# Altium integrated library Altium Database Library V2.IntLib: 825 symbols (part 14 of 40)

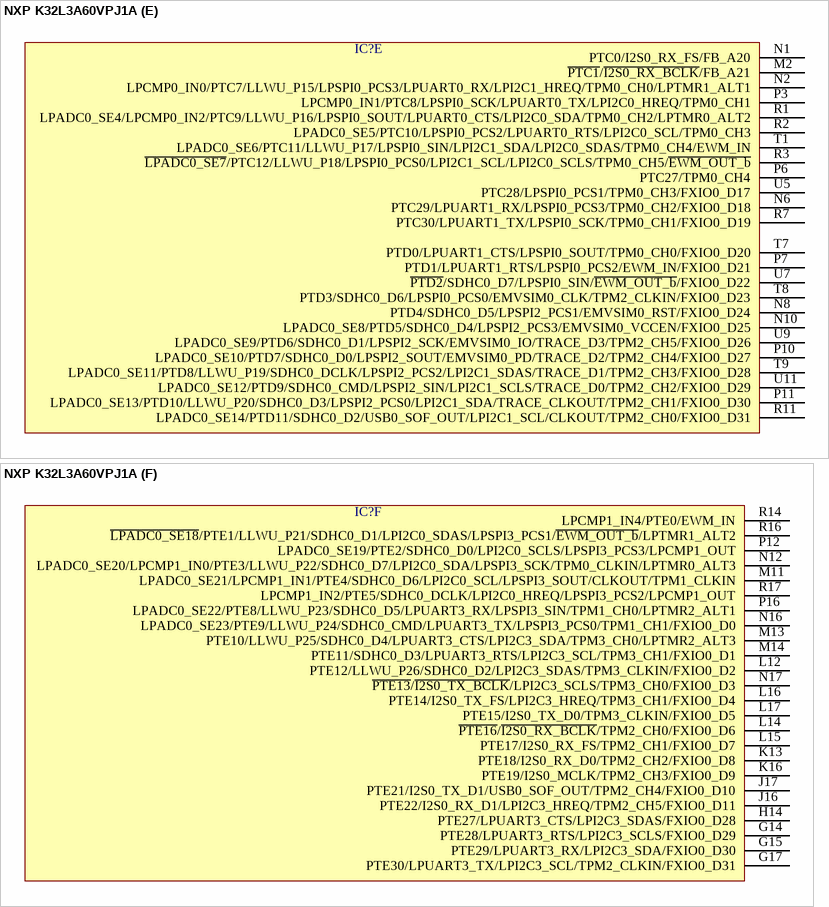
[diagram p299: symbol NXP K32L3A60VPJ1A]

## NXP K32L3A60VPJ1A
designator IC?  (value not drawn)
part A pins: A13 VSS154, A16 VSS121, A17 VSS140, B14 VSS162, B15 VSS163, B16 VSS164, C5 VSS165, C9 VDDIO19, C13 VSS166, C15 VSS167, C16 VSS168, D5 VSS8, D9 VSS169, D12 ~{RESET_b}, D13 VDDIO290, D15 VSS170, E3 VDDIO1155, E4 VDDIO1141, E14 VSS134, E15 VSS118, E16 EXTAL32, E17 XTAL32, F16 VSS171, G16 VBAT, H8 VSS172, H9 VDD_CORE133, H10 VSS173, J3 VDDIO123, J4 VSS22, J8 VDD_CORE88, J10 VDDIO134, J14 VSS105, J15 VDDIO2106, K8 VSS174, K9 VDDIO1135, K10 VSS89, N3 VSS33, N14 VDD_CORE190, N15 VDD_CORE49, P5 VDDIO169, P9 VSS48, P13 VSS70, R5 VDDIO155, R9 VDDIO147, R13 VSS56, R15 VSSA192, T2 VDD_DCDC191, T3 VOUT_AUX, T5 VOUT_CORE, T13 VOUT33, T15 VREF_OUT/LPADC0_SE15/LPCMP0_IN5/LPCMP1_IN5, T16 VSSA80, U1 VDD_DCDC41, U3 GND, U15 VDDA, U16 VREFH, U17 VREFL
part B pins: F13 TAMPER1/RTC_CLKOUT, F14 ~{TAMPER0}/~{RTC_WAKEUP_b}, G12 TAMPER2/RTC_CLKOUT, H13 TAMPER3/RTC_CLKOUT, N4 USB0_VSS, T4 LN, T11 USB0_DP, T12 USB0_DM, T17 DAC0_OUT/LPADC0_SE16/LPCMP0_IN3/LPCMP1_IN3, U2 LP, U13 VREGIN
part C pins: A1 PTA30_0/LLWU_P3_0/LPUART2_CTS_0/LPSPI1_SOUT_0/FB_AD14_0/TPM1_CH0_0/LPTMR2_ALT2_0, A2 PTA28/LPUART1_RTS/LPSPI3_PCS0/FB_AD28, A3 PTA27/LPUART1_CTS/LPSPI3_SIN/FB_AD29, A5 PTA26/LPUART1_TX/LPSPI3_PCS2/LPI2C2_SCLS/FB_AD30, A7 PTA15/LPI2C2_SCL/FB_AD22, A9 PTA10/LPI2C2_SCLS/LPSPI3_SOUT/FB_A22, B2 PTA30_1/LLWU_P3_1/LPUART2_CTS_1/LPSPI1_SOUT_1/FB_AD14_1/TPM1_CH0_1/LPTMR2_ALT2_1, B5 PTA25/LPUART1_RX/LPSPI3_SOUT/LPI2C2_SDAS/FB_AD31, B6 PTA22/LLWU_P2/LPSPI2_PCS2/LPI2C2_HREQ/FB_AD16/TPM2_CH2, B7 PTA21/LPSPI2_SOUT/EMVSIM0_PD/FB_AD17/TPM2_CH3, B9 PTA4/LPUART0_RTS/LPI2C0_SCLS/LPUART1_RTS/LPCMP0_OUT/JTAG_TMS/SWD_DIO, B10 ~{PTA0}/~{NMI_b}, C4 PTA31/LPUART2_RTS/LPSPI1_PCS2/FB_AD13/TPM1_CH1, C7 PTA20/LPSPI2_SCK/LPSPI1_PCS1/EMVSIM0_IO/FB_AD18/TPM2_CH4, D6 ~{PTA24}/LPSPI2_PCS0/LPSPI1_SCK/LPI2C2_SCL/~{FB_OE_b}/TPM2_CH0, D7 PTA19/LPSPI2_PCS3/LPSPI3_SCK/EMVSIM0_VCCEN/FB_AD19/TPM2_CH5, D8 PTA18/LPSPI2_PCS1/LPSPI3_PCS3/EMVSIM0_RST/FB_AD20, D11 PTA3/LPUART0_TX/LPI2C0_SCL/LPUART1_TX/TPM0_CLKIN/JTAG_TDO/SWD_SWO, E6 PTA23/LPSPI2_SIN/LPSPI1_PCS3/LPI2C2_SDA/FB_AD15/TPM2_CH1, E8 PTA14/LPI2C2_SDA/FB_AD23/LPCMP0_OUT, E10 PTA9/LPI2C2_SDAS/LPSPI3_SCK/FB_A23, E12 PTA1/LLWU_P0/LPUART0_CTS/LPI2C0_SDAS/LPUART1_CTS/JTAG_TCLK/SWD_CLK, F7 PTA17/LPI2C2_HREQ/LPSPI3_PCS1/EMVSIM0_CLK/FB_AD21, F11 PTA2/LLWU_P1/LPUART0_RX/LPI2C0_SDA/LPUART1_RX/JTAG_TDI
part D pins: B1 PTB2/LLWU_P5/LPSPI0_PCS1/LPUART1_RX/I2S0_TX_D0/FB_AD11/TPM0_CH0, B3 PTB0/LPUART2_TX/LPSPI1_SIN/USB0_SOF_OUT/CLKOUT/TPM1_CLKIN, C1 LPADC0_SE0/PTB3/LPSPI0_PCS3/LPUART1_TX/I2S0_TX_FS/FB_AD10/TPM0_CH1, C2 ~{LPADC0_SE1}/PTB4/LLWU_P6/LPSPI0_SCK/LPUART1_CTS/~{I2S0_TX_BCLK}/FB_AD9/TPM0_CH2, C3 PTB1/LLWU_P4/LPUART2_RX/LPSPI1_PCS0/I2S0_TX_D1/FB_AD12/LPTMR1_ALT3, D2 PTB5/LPSPI0_SOUT/LPUART1_RTS/I2S0_MCLK/FB_AD8/TPM0_CH3, E1 ~{PTB6}/LLWU_P7/LPSPI0_PCS2/LPI2C1_SDA/~{I2S0_RX_BCLK}/FB_AD7/TPM0_CH4, E2 LPADC0_SE2/PTB7/LLWU_P8/LPSPI0_SIN/LPI2C1_SDAS/I2S0_RX_FS/FB_AD6/TPM0_CH5, F4 ~{LPADC0_SE3}/PTB9/SPM_LPREQ/LPSPI0_PCS1/LPI2C1_SCL/I2S0_RX_D1/~{FB_RW_b}/FXIO0_D0, F5 PTB8/LLWU_P9/LPSPI0_PCS0/LPI2C1_SCLS/I2S0_RX_D0/FB_AD5/LPTMR0_ALT1, G1 ~{PTB15}/LPI2C1_HREQ/LPI2C3_SCL/~{FB_CS5_b}/FB_TSIZ1/~{FB_BE23_16_b}/TPM0_CLKIN/FXIO0_D5, G2 PTB14/LPUART2_RTS/LPI2C1_SCL/LPI2C0_SCLS/FB_AD24/TPM3_CH1/FXIO0_D4, G3 PTB13/LPUART2_CTS/LPI2C1_SDA/LPI2C0_SDAS/FB_AD25/TPM3_CH0/FXIO0_D3, G4 PTB12/LPUART2_TX/LPI2C1_SCLS/LPI2C0_SCL/FB_AD26/TPM3_CLKIN/FXIO0_D2, G6 PTB11/LPUART2_RX/LPI2C1_SDAS/LPI2C0_SDA/FB_AD27/FXIO0_D1, H2 ~{PTB18}/LPSPI1_PCS1/LPUART2_RX/LPI2C3_SDAS/~{FB_CS3_b}/~{FB_BE7_0_b}/~{FB_TA_b}/FXIO0_D8, H5 ~{PTB16}/LLWU_P10/LPUART3_CTS/LPI2C3_SDA/~{FB_CS4_b}/FB_TSIZ0/~{FB_BE31_24_b}/FXIO0_D6, J1 ~{PTB20}/LLWU_P11/LPSPI1_SCK/LPUART2_CTS/~{FB_CS0_b}/TPM1_CH0/FXIO0_D10, J2 PTB21/LPSPI1_SOUT/LPUART2_RTS/LPI2C2_HREQ/FB_AD4/TPM1_CH1/FXIO0_D11, K4 ~{PTB19}/LPSPI1_PCS3/LPUART2_TX/FB_ALE/~{FB_CS1_b}/~{FB_TS_b}/TPM1_CLKIN/FXIO0_D9, K5 ~{PTB17}/LPUART3_RTS/LPI2C3_SCLS/~{FB_TBST_b}/~{FB_CS2_b}/~{FB_BE15_8_b}/FXIO0_D7, L1 PTB22/LLWU_P12/LPSPI1_PCS2/LPUART0_CTS/LPI2C2_SDA/FB_AD3/TPM2_CLKIN/FXIO0_D12, L2 PTB24/LPSPI1_SIN/LPUART0_RTS/LPI2C2_SCL/FB_AD2/EWM_IN/FXIO0_D13, L3 PTB29/LPUART3_TX/I2S0_TX_FS/FB_A17/FXIO0_D16, L4 PTB26/USB0_SOF_OUT/LPUART0_TX/LPI2C2_SCLS/FB_AD0/LPCMP0_OUT, L6 ~{PTB25}/LLWU_P13/LPSPI1_PCS0/LPUART0_RX/LPI2C2_SDAS/FB_AD1/~{EWM_OUT_b}/FXIO0_D14, M4 PTB28/LLWU_P14/LPUART3_RX/I2S0_TX_D0/FB_A16/FXIO0_D15, M5 ~{PTB30}/~{I2S0_TX_BCLK}/FB_A18, M7 PTB31/I2S0_RX_D0/FB_A19
part E pins: M2 ~{PTC1}/~{I2S0_RX_BCLK}/FB_A21, N1 PTC0/I2S0_RX_FS/FB_A20, N2 LPCMP0_IN0/PTC7/LLWU_P15/LPSPI0_PCS3/LPUART0_RX/LPI2C1_HREQ/TPM0_CH0/LPTMR1_ALT1, N6 PTC29/LPUART1_RX/LPSPI0_PCS3/TPM0_CH2/FXIO0_D18, N8 PTD4/SDHC0_D5/LPSPI2_PCS1/EMVSIM0_RST/FXIO0_D24, N10 LPADC0_SE8/PTD5/SDHC0_D4/LPSPI2_PCS3/EMVSIM0_VCCEN/FXIO0_D25, P3 LPCMP0_IN1/PTC8/LPSPI0_SCK/LPUART0_TX/LPI2C0_HREQ/TPM0_CH1, P6 PTC27/TPM0_CH4, P7 PTD1/LPUART1_RTS/LPSPI0_PCS2/EWM_IN/FXIO0_D21, P10 LPADC0_SE10/PTD7/SDHC0_D0/LPSPI2_SOUT/EMVSIM0_PD/TRACE_D2/TPM2_CH4/FXIO0_D27, P11 LPADC0_SE13/PTD10/LLWU_P20/SDHC0_D3/LPSPI2_PCS0/LPI2C1_SDA/TRACE_CLKOUT/TPM2_CH1/FXIO0_D30, R1 LPADC0_SE4/LPCMP0_IN2/PTC9/LLWU_P16/LPSPI0_SOUT/LPUART0_CTS/LPI2C0_SDA/TPM0_CH2/LPTMR0_ALT2, R2 LPADC0_SE5/PTC10/LPSPI0_PCS2/LPUART0_RTS/LPI2C0_SCL/TPM0_CH3, R3 ~{LPADC0_SE7}/PTC12/LLWU_P18/LPSPI0_PCS0/LPI2C1_SCL/LPI2C0_SCLS/TPM0_CH5/~{EWM_OUT_b}, R7 PTC30/LPUART1_TX/LPSPI0_SCK/TPM0_CH1/FXIO0_D19, R11 LPADC0_SE14/PTD11/SDHC0_D2/USB0_SOF_OUT/LPI2C1_SCL/CLKOUT/TPM2_CH0/FXIO0_D31, T1 LPADC0_SE6/PTC11/LLWU_P17/LPSPI0_SIN/LPI2C1_SDA/LPI2C0_SDAS/TPM0_CH4/EWM_IN, T7 PTD0/LPUART1_CTS/LPSPI0_SOUT/TPM0_CH0/FXIO0_D20, T8 PTD3/SDHC0_D6/LPSPI0_PCS0/EMVSIM0_CLK/TPM2_CLKIN/FXIO0_D23, T9 LPADC0_SE11/PTD8/LLWU_P19/SDHC0_DCLK/LPSPI2_PCS2/LPI2C1_SDAS/TRACE_D1/TPM2_CH3/FXIO0_D28, U5 PTC28/LPSPI0_PCS1/TPM0_CH3/FXIO0_D17, U7 ~{PTD2}/SDHC0_D7/LPSPI0_SIN/~{EWM_OUT_b}/FXIO0_D22, U9 LPADC0_SE9/PTD6/SDHC0_D1/LPSPI2_SCK/EMVSIM0_IO/TRACE_D3/TPM2_CH5/FXIO0_D26, U11 LPADC0_SE12/PTD9/SDHC0_CMD/LPSPI2_SIN/LPI2C1_SCLS/TRACE_D0/TPM2_CH2/FXIO0_D29
part F pins: G14 PTE28/LPUART3_RTS/LPI2C3_SCLS/FXIO0_D29, G15 PTE29/LPUART3_RX/LPI2C3_SDA/FXIO0_D30, G17 PTE30/LPUART3_TX/LPI2C3_SCL/TPM2_CLKIN/FXIO0_D31, H14 PTE27/LPUART3_CTS/LPI2C3_SDAS/FXIO0_D28, J16 PTE22/I2S0_RX_D1/LPI2C3_HREQ/TPM2_CH5/FXIO0_D11, J17 PTE21/I2S0_TX_D1/USB0_SOF_OUT/TPM2_CH4/FXIO0_D10, K13 PTE18/I2S0_RX_D0/TPM2_CH2/FXIO0_D8, K16 PTE19/I2S0_MCLK/TPM2_CH3/FXIO0_D9, L12 PTE12/LLWU_P26/SDHC0_D2/LPI2C3_SDAS/TPM3_CLKIN/FXIO0_D2, L14 ~{PTE16}/~{I2S0_RX_BCLK}/TPM2_CH0/FXIO0_D6, L15 PTE17/I2S0_RX_FS/TPM2_CH1/FXIO0_D7, L16 PTE14/I2S0_TX_FS/LPI2C3_HREQ/TPM3_CH1/FXIO0_D4, L17 PTE15/I2S0_TX_D0/TPM3_CLKIN/FXIO0_D5, M11 LPADC0_SE21/LPCMP1_IN1/PTE4/SDHC0_D6/LPI2C0_SCL/LPSPI3_SOUT/CLKOUT/TPM1_CLKIN, M13 PTE10/LLWU_P25/SDHC0_D4/LPUART3_CTS/LPI2C3_SDA/TPM3_CH0/LPTMR2_ALT3, M14 PTE11/SDHC0_D3/LPUART3_RTS/LPI2C3_SCL/TPM3_CH1/FXIO0_D1, N12 LPADC0_SE20/LPCMP1_IN0/PTE3/LLWU_P22/SDHC0_D7/LPI2C0_SDA/LPSPI3_SCK/TPM0_CLKIN/LPTMR0_ALT3, N16 LPADC0_SE23/PTE9/LLWU_P24/SDHC0_CMD/LPUART3_TX/LPSPI3_PCS0/TPM1_CH1/FXIO0_D0, N17 ~{PTE13}/~{I2S0_TX_BCLK}/LPI2C3_SCLS/TPM3_CH0/FXIO0_D3, P12 LPADC0_SE19/PTE2/SDHC0_D0/LPI2C0_SCLS/LPSPI3_PCS3/LPCMP1_OUT, P16 LPADC0_SE22/PTE8/LLWU_P23/SDHC0_D5/LPUART3_RX/LPSPI3_SIN/TPM1_CH0/LPTMR2_ALT1, R14 LPCMP1_IN4/PTE0/EWM_IN, R16 ~{LPADC0_SE18}/PTE1/LLWU_P21/SDHC0_D1/LPI2C0_SDAS/LPSPI3_PCS1/~{EWM_OUT_b}/LPTMR1_ALT2, R17 LPCMP1_IN2/PTE5/SDHC0_DCLK/LPI2C0_HREQ/LPSPI3_PCS2/LPCMP1_OUT


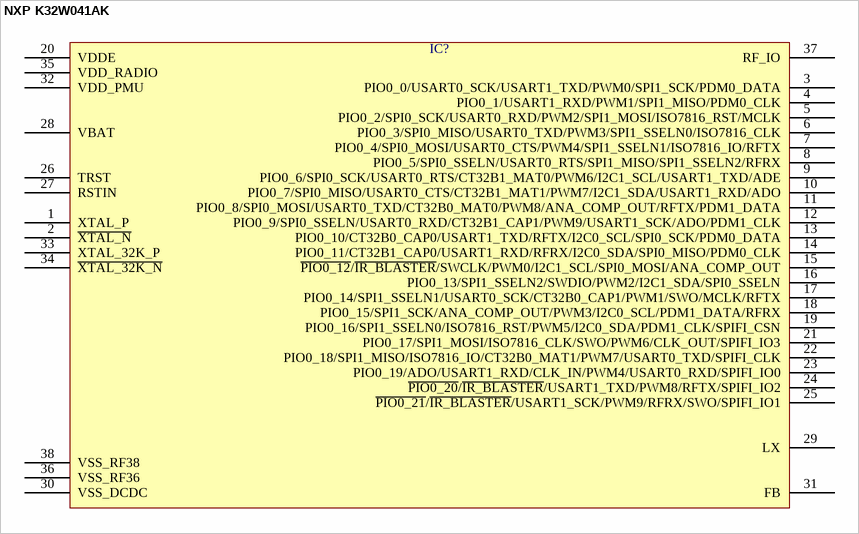
[diagram p300: symbol NXP K32W041AK]

## NXP K32W041AK
designator IC?  (value not drawn)
pins: 1 XTAL_P, 2 ~{XTAL_N}, 3 PIO0_0/USART0_SCK/USART1_TXD/PWM0/SPI1_SCK/PDM0_DATA, 4 PIO0_1/USART1_RXD/PWM1/SPI1_MISO/PDM0_CLK, 5 PIO0_2/SPI0_SCK/USART0_RXD/PWM2/SPI1_MOSI/ISO7816_RST/MCLK, 6 PIO0_3/SPI0_MISO/USART0_TXD/PWM3/SPI1_SSELN0/ISO7816_CLK, 7 PIO0_4/SPI0_MOSI/USART0_CTS/PWM4/SPI1_SSELN1/ISO7816_IO/RFTX, 8 PIO0_5/SPI0_SSELN/USART0_RTS/SPI1_MISO/SPI1_SSELN2/RFRX, 9 PIO0_6/SPI0_SCK/USART0_RTS/CT32B1_MAT0/PWM6/I2C1_SCL/USART1_TXD/ADE, 10 PIO0_7/SPI0_MISO/USART0_CTS/CT32B1_MAT1/PWM7/I2C1_SDA/USART1_RXD/ADO, 11 PIO0_8/SPI0_MOSI/USART0_TXD/CT32B0_MAT0/PWM8/ANA_COMP_OUT/RFTX/PDM1_DATA, 12 PIO0_9/SPI0_SSELN/USART0_RXD/CT32B1_CAP1/PWM9/USART1_SCK/ADO/PDM1_CLK, 13 PIO0_10/CT32B0_CAP0/USART1_TXD/RFTX/I2C0_SCL/SPI0_SCK/PDM0_DATA, 14 PIO0_11/CT32B1_CAP0/USART1_RXD/RFRX/I2C0_SDA/SPI0_MISO/PDM0_CLK, 15 ~{PIO0_12}/~{IR_BLASTER}/SWCLK/PWM0/I2C1_SCL/SPI0_MOSI/ANA_COMP_OUT, 16 PIO0_13/SPI1_SSELN2/SWDIO/PWM2/I2C1_SDA/SPI0_SSELN, 17 PIO0_14/SPI1_SSELN1/USART0_SCK/CT32B0_CAP1/PWM1/SWO/MCLK/RFTX, 18 PIO0_15/SPI1_SCK/ANA_COMP_OUT/PWM3/I2C0_SCL/PDM1_DATA/RFRX, 19 PIO0_16/SPI1_SSELN0/ISO7816_RST/PWM5/I2C0_SDA/PDM1_CLK/SPIFI_CSN, 20 VDDE, 21 PIO0_17/SPI1_MOSI/ISO7816_CLK/SWO/PWM6/CLK_OUT/SPIFI_IO3, 22 PIO0_18/SPI1_MISO/ISO7816_IO/CT32B0_MAT1/PWM7/USART0_TXD/SPIFI_CLK, 23 PIO0_19/ADO/USART1_RXD/CLK_IN/PWM4/USART0_RXD/SPIFI_IO0, 24 ~{PIO0_20}/~{IR_BLASTER}/USART1_TXD/PWM8/RFTX/SPIFI_IO2, 25 ~{PIO0_21}/~{IR_BLASTER}/USART1_SCK/PWM9/RFRX/SWO/SPIFI_IO1, 26 TRST, 27 RSTIN, 28 VBAT, 29 LX, 30 VSS_DCDC, 31 FB, 32 VDD_PMU, 33 XTAL_32K_P, 34 ~{XTAL_32K_N}, 35 VDD_RADIO, 36 VSS_RF36, 37 RF_IO, 38 VSS_RF38


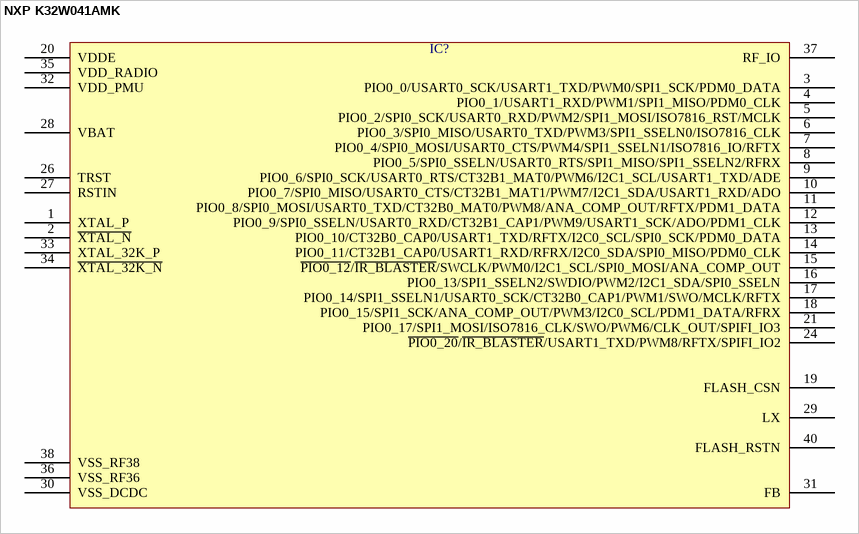
[diagram p301: symbol NXP K32W041AMK]

## NXP K32W041AMK
designator IC?  (value not drawn)
pins: 1 XTAL_P, 2 ~{XTAL_N}, 3 PIO0_0/USART0_SCK/USART1_TXD/PWM0/SPI1_SCK/PDM0_DATA, 4 PIO0_1/USART1_RXD/PWM1/SPI1_MISO/PDM0_CLK, 5 PIO0_2/SPI0_SCK/USART0_RXD/PWM2/SPI1_MOSI/ISO7816_RST/MCLK, 6 PIO0_3/SPI0_MISO/USART0_TXD/PWM3/SPI1_SSELN0/ISO7816_CLK, 7 PIO0_4/SPI0_MOSI/USART0_CTS/PWM4/SPI1_SSELN1/ISO7816_IO/RFTX, 8 PIO0_5/SPI0_SSELN/USART0_RTS/SPI1_MISO/SPI1_SSELN2/RFRX, 9 PIO0_6/SPI0_SCK/USART0_RTS/CT32B1_MAT0/PWM6/I2C1_SCL/USART1_TXD/ADE, 10 PIO0_7/SPI0_MISO/USART0_CTS/CT32B1_MAT1/PWM7/I2C1_SDA/USART1_RXD/ADO, 11 PIO0_8/SPI0_MOSI/USART0_TXD/CT32B0_MAT0/PWM8/ANA_COMP_OUT/RFTX/PDM1_DATA, 12 PIO0_9/SPI0_SSELN/USART0_RXD/CT32B1_CAP1/PWM9/USART1_SCK/ADO/PDM1_CLK, 13 PIO0_10/CT32B0_CAP0/USART1_TXD/RFTX/I2C0_SCL/SPI0_SCK/PDM0_DATA, 14 PIO0_11/CT32B1_CAP0/USART1_RXD/RFRX/I2C0_SDA/SPI0_MISO/PDM0_CLK, 15 ~{PIO0_12}/~{IR_BLASTER}/SWCLK/PWM0/I2C1_SCL/SPI0_MOSI/ANA_COMP_OUT, 16 PIO0_13/SPI1_SSELN2/SWDIO/PWM2/I2C1_SDA/SPI0_SSELN, 17 PIO0_14/SPI1_SSELN1/USART0_SCK/CT32B0_CAP1/PWM1/SWO/MCLK/RFTX, 18 PIO0_15/SPI1_SCK/ANA_COMP_OUT/PWM3/I2C0_SCL/PDM1_DATA/RFRX, 19 FLASH_CSN, 20 VDDE, 21 PIO0_17/SPI1_MOSI/ISO7816_CLK/SWO/PWM6/CLK_OUT/SPIFI_IO3, 24 ~{PIO0_20}/~{IR_BLASTER}/USART1_TXD/PWM8/RFTX/SPIFI_IO2, 26 TRST, 27 RSTIN, 28 VBAT, 29 LX, 30 VSS_DCDC, 31 FB, 32 VDD_PMU, 33 XTAL_32K_P, 34 ~{XTAL_32K_N}, 35 VDD_RADIO, 36 VSS_RF36, 37 RF_IO, 38 VSS_RF38, 40 FLASH_RSTN


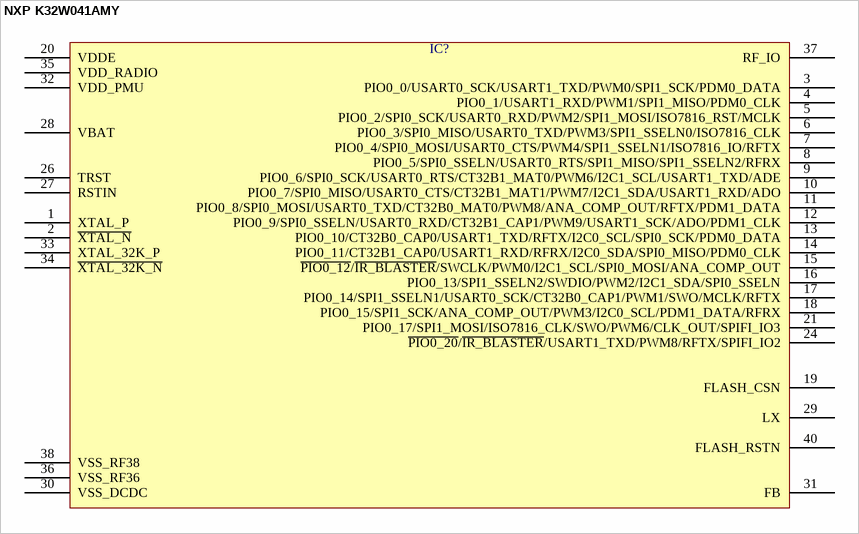
[diagram p302: symbol NXP K32W041AMY]

## NXP K32W041AMY
designator IC?  (value not drawn)
pins: 1 XTAL_P, 2 ~{XTAL_N}, 3 PIO0_0/USART0_SCK/USART1_TXD/PWM0/SPI1_SCK/PDM0_DATA, 4 PIO0_1/USART1_RXD/PWM1/SPI1_MISO/PDM0_CLK, 5 PIO0_2/SPI0_SCK/USART0_RXD/PWM2/SPI1_MOSI/ISO7816_RST/MCLK, 6 PIO0_3/SPI0_MISO/USART0_TXD/PWM3/SPI1_SSELN0/ISO7816_CLK, 7 PIO0_4/SPI0_MOSI/USART0_CTS/PWM4/SPI1_SSELN1/ISO7816_IO/RFTX, 8 PIO0_5/SPI0_SSELN/USART0_RTS/SPI1_MISO/SPI1_SSELN2/RFRX, 9 PIO0_6/SPI0_SCK/USART0_RTS/CT32B1_MAT0/PWM6/I2C1_SCL/USART1_TXD/ADE, 10 PIO0_7/SPI0_MISO/USART0_CTS/CT32B1_MAT1/PWM7/I2C1_SDA/USART1_RXD/ADO, 11 PIO0_8/SPI0_MOSI/USART0_TXD/CT32B0_MAT0/PWM8/ANA_COMP_OUT/RFTX/PDM1_DATA, 12 PIO0_9/SPI0_SSELN/USART0_RXD/CT32B1_CAP1/PWM9/USART1_SCK/ADO/PDM1_CLK, 13 PIO0_10/CT32B0_CAP0/USART1_TXD/RFTX/I2C0_SCL/SPI0_SCK/PDM0_DATA, 14 PIO0_11/CT32B1_CAP0/USART1_RXD/RFRX/I2C0_SDA/SPI0_MISO/PDM0_CLK, 15 ~{PIO0_12}/~{IR_BLASTER}/SWCLK/PWM0/I2C1_SCL/SPI0_MOSI/ANA_COMP_OUT, 16 PIO0_13/SPI1_SSELN2/SWDIO/PWM2/I2C1_SDA/SPI0_SSELN, 17 PIO0_14/SPI1_SSELN1/USART0_SCK/CT32B0_CAP1/PWM1/SWO/MCLK/RFTX, 18 PIO0_15/SPI1_SCK/ANA_COMP_OUT/PWM3/I2C0_SCL/PDM1_DATA/RFRX, 19 FLASH_CSN, 20 VDDE, 21 PIO0_17/SPI1_MOSI/ISO7816_CLK/SWO/PWM6/CLK_OUT/SPIFI_IO3, 24 ~{PIO0_20}/~{IR_BLASTER}/USART1_TXD/PWM8/RFTX/SPIFI_IO2, 26 TRST, 27 RSTIN, 28 VBAT, 29 LX, 30 VSS_DCDC, 31 FB, 32 VDD_PMU, 33 XTAL_32K_P, 34 ~{XTAL_32K_N}, 35 VDD_RADIO, 36 VSS_RF36, 37 RF_IO, 38 VSS_RF38, 40 FLASH_RSTN


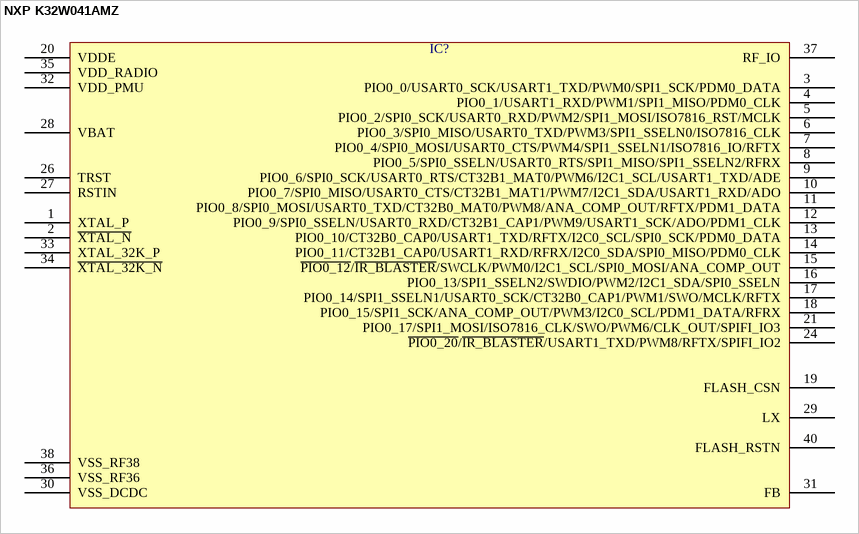
[diagram p303: symbol NXP K32W041AMZ]

## NXP K32W041AMZ
designator IC?  (value not drawn)
pins: 1 XTAL_P, 2 ~{XTAL_N}, 3 PIO0_0/USART0_SCK/USART1_TXD/PWM0/SPI1_SCK/PDM0_DATA, 4 PIO0_1/USART1_RXD/PWM1/SPI1_MISO/PDM0_CLK, 5 PIO0_2/SPI0_SCK/USART0_RXD/PWM2/SPI1_MOSI/ISO7816_RST/MCLK, 6 PIO0_3/SPI0_MISO/USART0_TXD/PWM3/SPI1_SSELN0/ISO7816_CLK, 7 PIO0_4/SPI0_MOSI/USART0_CTS/PWM4/SPI1_SSELN1/ISO7816_IO/RFTX, 8 PIO0_5/SPI0_SSELN/USART0_RTS/SPI1_MISO/SPI1_SSELN2/RFRX, 9 PIO0_6/SPI0_SCK/USART0_RTS/CT32B1_MAT0/PWM6/I2C1_SCL/USART1_TXD/ADE, 10 PIO0_7/SPI0_MISO/USART0_CTS/CT32B1_MAT1/PWM7/I2C1_SDA/USART1_RXD/ADO, 11 PIO0_8/SPI0_MOSI/USART0_TXD/CT32B0_MAT0/PWM8/ANA_COMP_OUT/RFTX/PDM1_DATA, 12 PIO0_9/SPI0_SSELN/USART0_RXD/CT32B1_CAP1/PWM9/USART1_SCK/ADO/PDM1_CLK, 13 PIO0_10/CT32B0_CAP0/USART1_TXD/RFTX/I2C0_SCL/SPI0_SCK/PDM0_DATA, 14 PIO0_11/CT32B1_CAP0/USART1_RXD/RFRX/I2C0_SDA/SPI0_MISO/PDM0_CLK, 15 ~{PIO0_12}/~{IR_BLASTER}/SWCLK/PWM0/I2C1_SCL/SPI0_MOSI/ANA_COMP_OUT, 16 PIO0_13/SPI1_SSELN2/SWDIO/PWM2/I2C1_SDA/SPI0_SSELN, 17 PIO0_14/SPI1_SSELN1/USART0_SCK/CT32B0_CAP1/PWM1/SWO/MCLK/RFTX, 18 PIO0_15/SPI1_SCK/ANA_COMP_OUT/PWM3/I2C0_SCL/PDM1_DATA/RFRX, 19 FLASH_CSN, 20 VDDE, 21 PIO0_17/SPI1_MOSI/ISO7816_CLK/SWO/PWM6/CLK_OUT/SPIFI_IO3, 24 ~{PIO0_20}/~{IR_BLASTER}/USART1_TXD/PWM8/RFTX/SPIFI_IO2, 26 TRST, 27 RSTIN, 28 VBAT, 29 LX, 30 VSS_DCDC, 31 FB, 32 VDD_PMU, 33 XTAL_32K_P, 34 ~{XTAL_32K_N}, 35 VDD_RADIO, 36 VSS_RF36, 37 RF_IO, 38 VSS_RF38, 40 FLASH_RSTN


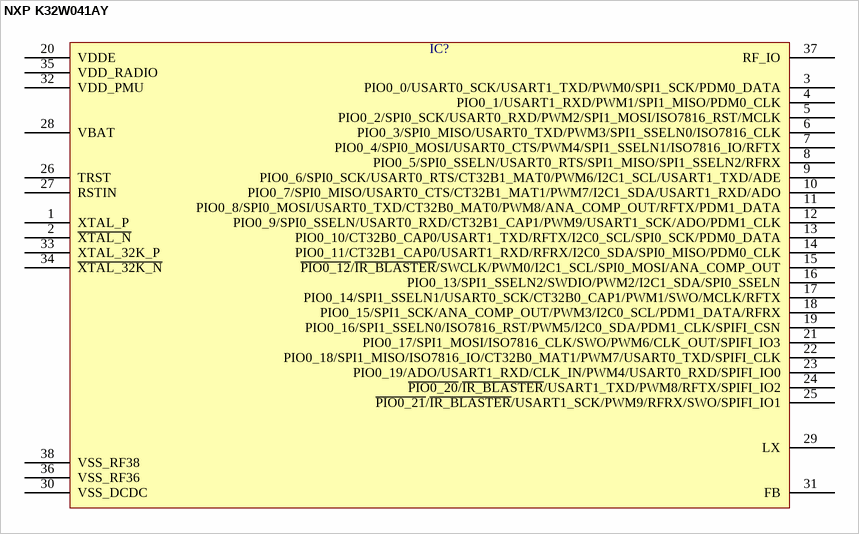
[diagram p304: symbol NXP K32W041AY]

## NXP K32W041AY
designator IC?  (value not drawn)
pins: 1 XTAL_P, 2 ~{XTAL_N}, 3 PIO0_0/USART0_SCK/USART1_TXD/PWM0/SPI1_SCK/PDM0_DATA, 4 PIO0_1/USART1_RXD/PWM1/SPI1_MISO/PDM0_CLK, 5 PIO0_2/SPI0_SCK/USART0_RXD/PWM2/SPI1_MOSI/ISO7816_RST/MCLK, 6 PIO0_3/SPI0_MISO/USART0_TXD/PWM3/SPI1_SSELN0/ISO7816_CLK, 7 PIO0_4/SPI0_MOSI/USART0_CTS/PWM4/SPI1_SSELN1/ISO7816_IO/RFTX, 8 PIO0_5/SPI0_SSELN/USART0_RTS/SPI1_MISO/SPI1_SSELN2/RFRX, 9 PIO0_6/SPI0_SCK/USART0_RTS/CT32B1_MAT0/PWM6/I2C1_SCL/USART1_TXD/ADE, 10 PIO0_7/SPI0_MISO/USART0_CTS/CT32B1_MAT1/PWM7/I2C1_SDA/USART1_RXD/ADO, 11 PIO0_8/SPI0_MOSI/USART0_TXD/CT32B0_MAT0/PWM8/ANA_COMP_OUT/RFTX/PDM1_DATA, 12 PIO0_9/SPI0_SSELN/USART0_RXD/CT32B1_CAP1/PWM9/USART1_SCK/ADO/PDM1_CLK, 13 PIO0_10/CT32B0_CAP0/USART1_TXD/RFTX/I2C0_SCL/SPI0_SCK/PDM0_DATA, 14 PIO0_11/CT32B1_CAP0/USART1_RXD/RFRX/I2C0_SDA/SPI0_MISO/PDM0_CLK, 15 ~{PIO0_12}/~{IR_BLASTER}/SWCLK/PWM0/I2C1_SCL/SPI0_MOSI/ANA_COMP_OUT, 16 PIO0_13/SPI1_SSELN2/SWDIO/PWM2/I2C1_SDA/SPI0_SSELN, 17 PIO0_14/SPI1_SSELN1/USART0_SCK/CT32B0_CAP1/PWM1/SWO/MCLK/RFTX, 18 PIO0_15/SPI1_SCK/ANA_COMP_OUT/PWM3/I2C0_SCL/PDM1_DATA/RFRX, 19 PIO0_16/SPI1_SSELN0/ISO7816_RST/PWM5/I2C0_SDA/PDM1_CLK/SPIFI_CSN, 20 VDDE, 21 PIO0_17/SPI1_MOSI/ISO7816_CLK/SWO/PWM6/CLK_OUT/SPIFI_IO3, 22 PIO0_18/SPI1_MISO/ISO7816_IO/CT32B0_MAT1/PWM7/USART0_TXD/SPIFI_CLK, 23 PIO0_19/ADO/USART1_RXD/CLK_IN/PWM4/USART0_RXD/SPIFI_IO0, 24 ~{PIO0_20}/~{IR_BLASTER}/USART1_TXD/PWM8/RFTX/SPIFI_IO2, 25 ~{PIO0_21}/~{IR_BLASTER}/USART1_SCK/PWM9/RFRX/SWO/SPIFI_IO1, 26 TRST, 27 RSTIN, 28 VBAT, 29 LX, 30 VSS_DCDC, 31 FB, 32 VDD_PMU, 33 XTAL_32K_P, 34 ~{XTAL_32K_N}, 35 VDD_RADIO, 36 VSS_RF36, 37 RF_IO, 38 VSS_RF38


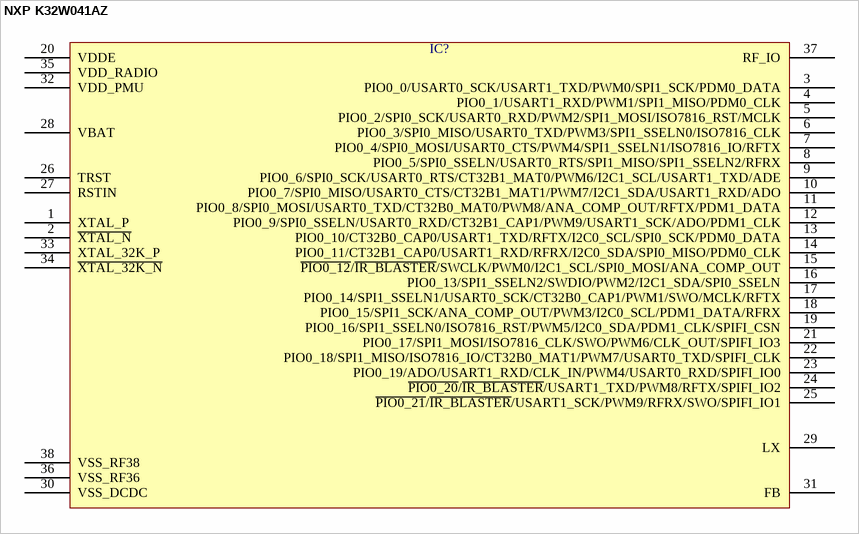
[diagram p305: symbol NXP K32W041AZ]

## NXP K32W041AZ
designator IC?  (value not drawn)
pins: 1 XTAL_P, 2 ~{XTAL_N}, 3 PIO0_0/USART0_SCK/USART1_TXD/PWM0/SPI1_SCK/PDM0_DATA, 4 PIO0_1/USART1_RXD/PWM1/SPI1_MISO/PDM0_CLK, 5 PIO0_2/SPI0_SCK/USART0_RXD/PWM2/SPI1_MOSI/ISO7816_RST/MCLK, 6 PIO0_3/SPI0_MISO/USART0_TXD/PWM3/SPI1_SSELN0/ISO7816_CLK, 7 PIO0_4/SPI0_MOSI/USART0_CTS/PWM4/SPI1_SSELN1/ISO7816_IO/RFTX, 8 PIO0_5/SPI0_SSELN/USART0_RTS/SPI1_MISO/SPI1_SSELN2/RFRX, 9 PIO0_6/SPI0_SCK/USART0_RTS/CT32B1_MAT0/PWM6/I2C1_SCL/USART1_TXD/ADE, 10 PIO0_7/SPI0_MISO/USART0_CTS/CT32B1_MAT1/PWM7/I2C1_SDA/USART1_RXD/ADO, 11 PIO0_8/SPI0_MOSI/USART0_TXD/CT32B0_MAT0/PWM8/ANA_COMP_OUT/RFTX/PDM1_DATA, 12 PIO0_9/SPI0_SSELN/USART0_RXD/CT32B1_CAP1/PWM9/USART1_SCK/ADO/PDM1_CLK, 13 PIO0_10/CT32B0_CAP0/USART1_TXD/RFTX/I2C0_SCL/SPI0_SCK/PDM0_DATA, 14 PIO0_11/CT32B1_CAP0/USART1_RXD/RFRX/I2C0_SDA/SPI0_MISO/PDM0_CLK, 15 ~{PIO0_12}/~{IR_BLASTER}/SWCLK/PWM0/I2C1_SCL/SPI0_MOSI/ANA_COMP_OUT, 16 PIO0_13/SPI1_SSELN2/SWDIO/PWM2/I2C1_SDA/SPI0_SSELN, 17 PIO0_14/SPI1_SSELN1/USART0_SCK/CT32B0_CAP1/PWM1/SWO/MCLK/RFTX, 18 PIO0_15/SPI1_SCK/ANA_COMP_OUT/PWM3/I2C0_SCL/PDM1_DATA/RFRX, 19 PIO0_16/SPI1_SSELN0/ISO7816_RST/PWM5/I2C0_SDA/PDM1_CLK/SPIFI_CSN, 20 VDDE, 21 PIO0_17/SPI1_MOSI/ISO7816_CLK/SWO/PWM6/CLK_OUT/SPIFI_IO3, 22 PIO0_18/SPI1_MISO/ISO7816_IO/CT32B0_MAT1/PWM7/USART0_TXD/SPIFI_CLK, 23 PIO0_19/ADO/USART1_RXD/CLK_IN/PWM4/USART0_RXD/SPIFI_IO0, 24 ~{PIO0_20}/~{IR_BLASTER}/USART1_TXD/PWM8/RFTX/SPIFI_IO2, 25 ~{PIO0_21}/~{IR_BLASTER}/USART1_SCK/PWM9/RFRX/SWO/SPIFI_IO1, 26 TRST, 27 RSTIN, 28 VBAT, 29 LX, 30 VSS_DCDC, 31 FB, 32 VDD_PMU, 33 XTAL_32K_P, 34 ~{XTAL_32K_N}, 35 VDD_RADIO, 36 VSS_RF36, 37 RF_IO, 38 VSS_RF38


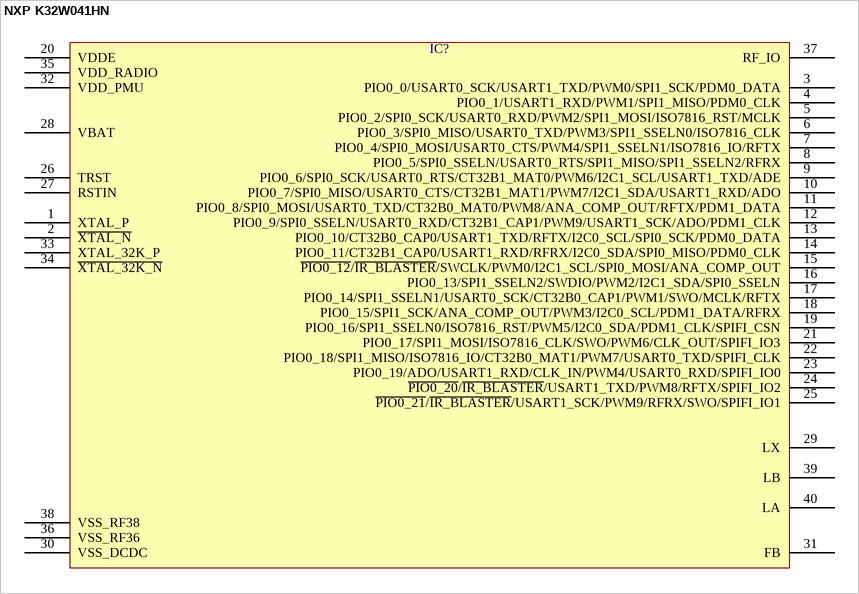
[diagram p306: symbol NXP K32W041HN]

## NXP K32W041HN
designator IC?  (value not drawn)
pins: 1 XTAL_P, 2 ~{XTAL_N}, 3 PIO0_0/USART0_SCK/USART1_TXD/PWM0/SPI1_SCK/PDM0_DATA, 4 PIO0_1/USART1_RXD/PWM1/SPI1_MISO/PDM0_CLK, 5 PIO0_2/SPI0_SCK/USART0_RXD/PWM2/SPI1_MOSI/ISO7816_RST/MCLK, 6 PIO0_3/SPI0_MISO/USART0_TXD/PWM3/SPI1_SSELN0/ISO7816_CLK, 7 PIO0_4/SPI0_MOSI/USART0_CTS/PWM4/SPI1_SSELN1/ISO7816_IO/RFTX, 8 PIO0_5/SPI0_SSELN/USART0_RTS/SPI1_MISO/SPI1_SSELN2/RFRX, 9 PIO0_6/SPI0_SCK/USART0_RTS/CT32B1_MAT0/PWM6/I2C1_SCL/USART1_TXD/ADE, 10 PIO0_7/SPI0_MISO/USART0_CTS/CT32B1_MAT1/PWM7/I2C1_SDA/USART1_RXD/ADO, 11 PIO0_8/SPI0_MOSI/USART0_TXD/CT32B0_MAT0/PWM8/ANA_COMP_OUT/RFTX/PDM1_DATA, 12 PIO0_9/SPI0_SSELN/USART0_RXD/CT32B1_CAP1/PWM9/USART1_SCK/ADO/PDM1_CLK, 13 PIO0_10/CT32B0_CAP0/USART1_TXD/RFTX/I2C0_SCL/SPI0_SCK/PDM0_DATA, 14 PIO0_11/CT32B1_CAP0/USART1_RXD/RFRX/I2C0_SDA/SPI0_MISO/PDM0_CLK, 15 ~{PIO0_12}/~{IR_BLASTER}/SWCLK/PWM0/I2C1_SCL/SPI0_MOSI/ANA_COMP_OUT, 16 PIO0_13/SPI1_SSELN2/SWDIO/PWM2/I2C1_SDA/SPI0_SSELN, 17 PIO0_14/SPI1_SSELN1/USART0_SCK/CT32B0_CAP1/PWM1/SWO/MCLK/RFTX, 18 PIO0_15/SPI1_SCK/ANA_COMP_OUT/PWM3/I2C0_SCL/PDM1_DATA/RFRX, 19 PIO0_16/SPI1_SSELN0/ISO7816_RST/PWM5/I2C0_SDA/PDM1_CLK/SPIFI_CSN, 20 VDDE, 21 PIO0_17/SPI1_MOSI/ISO7816_CLK/SWO/PWM6/CLK_OUT/SPIFI_IO3, 22 PIO0_18/SPI1_MISO/ISO7816_IO/CT32B0_MAT1/PWM7/USART0_TXD/SPIFI_CLK, 23 PIO0_19/ADO/USART1_RXD/CLK_IN/PWM4/USART0_RXD/SPIFI_IO0, 24 ~{PIO0_20}/~{IR_BLASTER}/USART1_TXD/PWM8/RFTX/SPIFI_IO2, 25 ~{PIO0_21}/~{IR_BLASTER}/USART1_SCK/PWM9/RFRX/SWO/SPIFI_IO1, 26 TRST, 27 RSTIN, 28 VBAT, 29 LX, 30 VSS_DCDC, 31 FB, 32 VDD_PMU, 33 XTAL_32K_P, 34 ~{XTAL_32K_N}, 35 VDD_RADIO, 36 VSS_RF36, 37 RF_IO, 38 VSS_RF38, 39 LB, 40 LA


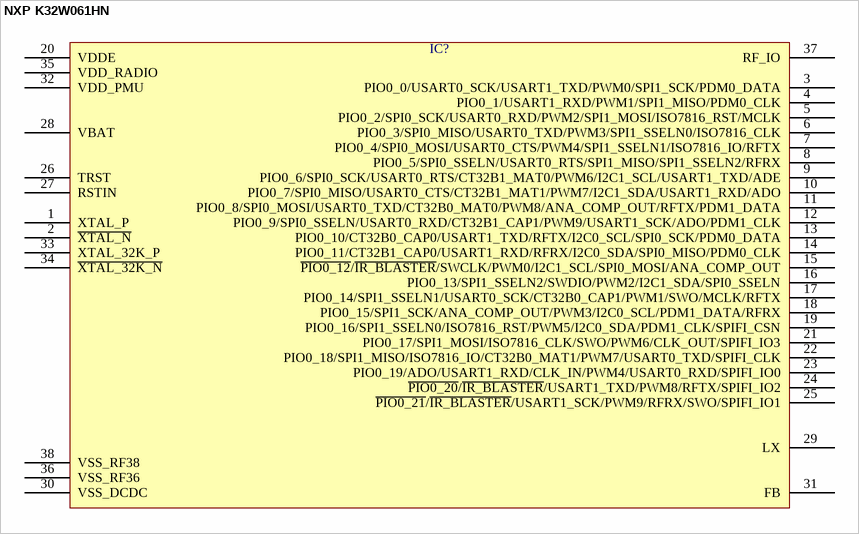
[diagram p307: symbol NXP K32W061HN]

## NXP K32W061HN
designator IC?  (value not drawn)
pins: 1 XTAL_P, 2 ~{XTAL_N}, 3 PIO0_0/USART0_SCK/USART1_TXD/PWM0/SPI1_SCK/PDM0_DATA, 4 PIO0_1/USART1_RXD/PWM1/SPI1_MISO/PDM0_CLK, 5 PIO0_2/SPI0_SCK/USART0_RXD/PWM2/SPI1_MOSI/ISO7816_RST/MCLK, 6 PIO0_3/SPI0_MISO/USART0_TXD/PWM3/SPI1_SSELN0/ISO7816_CLK, 7 PIO0_4/SPI0_MOSI/USART0_CTS/PWM4/SPI1_SSELN1/ISO7816_IO/RFTX, 8 PIO0_5/SPI0_SSELN/USART0_RTS/SPI1_MISO/SPI1_SSELN2/RFRX, 9 PIO0_6/SPI0_SCK/USART0_RTS/CT32B1_MAT0/PWM6/I2C1_SCL/USART1_TXD/ADE, 10 PIO0_7/SPI0_MISO/USART0_CTS/CT32B1_MAT1/PWM7/I2C1_SDA/USART1_RXD/ADO, 11 PIO0_8/SPI0_MOSI/USART0_TXD/CT32B0_MAT0/PWM8/ANA_COMP_OUT/RFTX/PDM1_DATA, 12 PIO0_9/SPI0_SSELN/USART0_RXD/CT32B1_CAP1/PWM9/USART1_SCK/ADO/PDM1_CLK, 13 PIO0_10/CT32B0_CAP0/USART1_TXD/RFTX/I2C0_SCL/SPI0_SCK/PDM0_DATA, 14 PIO0_11/CT32B1_CAP0/USART1_RXD/RFRX/I2C0_SDA/SPI0_MISO/PDM0_CLK, 15 ~{PIO0_12}/~{IR_BLASTER}/SWCLK/PWM0/I2C1_SCL/SPI0_MOSI/ANA_COMP_OUT, 16 PIO0_13/SPI1_SSELN2/SWDIO/PWM2/I2C1_SDA/SPI0_SSELN, 17 PIO0_14/SPI1_SSELN1/USART0_SCK/CT32B0_CAP1/PWM1/SWO/MCLK/RFTX, 18 PIO0_15/SPI1_SCK/ANA_COMP_OUT/PWM3/I2C0_SCL/PDM1_DATA/RFRX, 19 PIO0_16/SPI1_SSELN0/ISO7816_RST/PWM5/I2C0_SDA/PDM1_CLK/SPIFI_CSN, 20 VDDE, 21 PIO0_17/SPI1_MOSI/ISO7816_CLK/SWO/PWM6/CLK_OUT/SPIFI_IO3, 22 PIO0_18/SPI1_MISO/ISO7816_IO/CT32B0_MAT1/PWM7/USART0_TXD/SPIFI_CLK, 23 PIO0_19/ADO/USART1_RXD/CLK_IN/PWM4/USART0_RXD/SPIFI_IO0, 24 ~{PIO0_20}/~{IR_BLASTER}/USART1_TXD/PWM8/RFTX/SPIFI_IO2, 25 ~{PIO0_21}/~{IR_BLASTER}/USART1_SCK/PWM9/RFRX/SWO/SPIFI_IO1, 26 TRST, 27 RSTIN, 28 VBAT, 29 LX, 30 VSS_DCDC, 31 FB, 32 VDD_PMU, 33 XTAL_32K_P, 34 ~{XTAL_32K_N}, 35 VDD_RADIO, 36 VSS_RF36, 37 RF_IO, 38 VSS_RF38


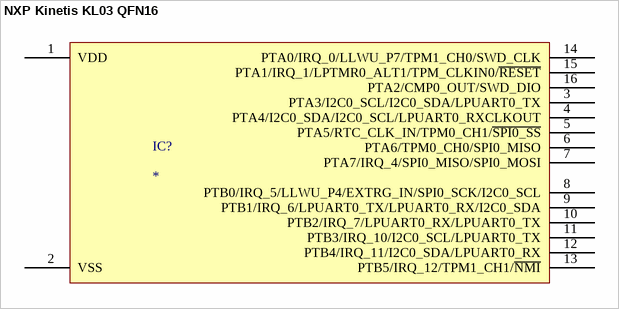
[diagram p308: symbol NXP Kinetis KL03 QFN16]

## NXP Kinetis KL03 QFN16
designator IC?
pins: 1 VDD, 2 VSS, 3 PTA3/I2C0_SCL/I2C0_SDA/LPUART0_TX, 4 PTA4/I2C0_SDA/I2C0_SCL/LPUART0_RXCLKOUT, 5 PTA5/RTC_CLK_IN/TPM0_CH1/~{SPI0_SS}, 6 PTA6/TPM0_CH0/SPI0_MISO, 7 PTA7/IRQ_4/SPI0_MISO/SPI0_MOSI, 8 PTB0/IRQ_5/LLWU_P4/EXTRG_IN/SPI0_SCK/I2C0_SCL, 9 PTB1/IRQ_6/LPUART0_TX/LPUART0_RX/I2C0_SDA, 10 PTB2/IRQ_7/LPUART0_RX/LPUART0_TX, 11 PTB3/IRQ_10/I2C0_SCL/LPUART0_TX, 12 PTB4/IRQ_11/I2C0_SDA/LPUART0_RX, 13 PTB5/IRQ_12/TPM1_CH1/~{NMI}, 14 PTA0/IRQ_0/LLWU_P7/TPM1_CH0/SWD_CLK, 15 PTA1/IRQ_1/LPTMR0_ALT1/TPM_CLKIN0/~{RESET}, 16 PTA2/CMP0_OUT/SWD_DIO


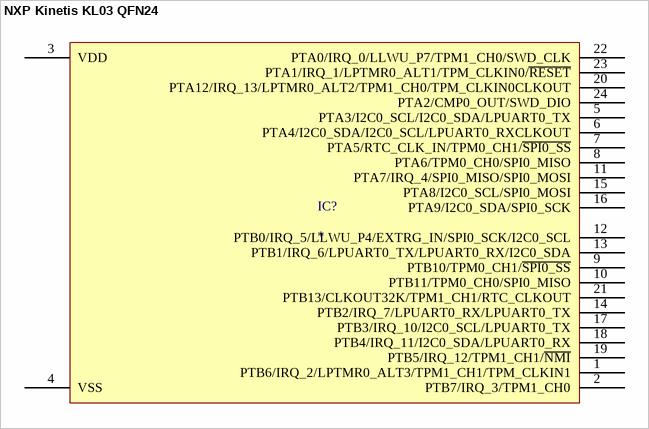
[diagram p309: symbol NXP Kinetis KL03 QFN24]

## NXP Kinetis KL03 QFN24
designator IC?
pins: 1 PTB6/IRQ_2/LPTMR0_ALT3/TPM1_CH1/TPM_CLKIN1, 2 PTB7/IRQ_3/TPM1_CH0, 3 VDD, 4 VSS, 5 PTA3/I2C0_SCL/I2C0_SDA/LPUART0_TX, 6 PTA4/I2C0_SDA/I2C0_SCL/LPUART0_RXCLKOUT, 7 PTA5/RTC_CLK_IN/TPM0_CH1/~{SPI0_SS}, 8 PTA6/TPM0_CH0/SPI0_MISO, 9 PTB10/TPM0_CH1/~{SPI0_SS}, 10 PTB11/TPM0_CH0/SPI0_MISO, 11 PTA7/IRQ_4/SPI0_MISO/SPI0_MOSI, 12 PTB0/IRQ_5/LLWU_P4/EXTRG_IN/SPI0_SCK/I2C0_SCL, 13 PTB1/IRQ_6/LPUART0_TX/LPUART0_RX/I2C0_SDA, 14 PTB2/IRQ_7/LPUART0_RX/LPUART0_TX, 15 PTA8/I2C0_SCL/SPI0_MOSI, 16 PTA9/I2C0_SDA/SPI0_SCK, 17 PTB3/IRQ_10/I2C0_SCL/LPUART0_TX, 18 PTB4/IRQ_11/I2C0_SDA/LPUART0_RX, 19 PTB5/IRQ_12/TPM1_CH1/~{NMI}, 20 PTA12/IRQ_13/LPTMR0_ALT2/TPM1_CH0/TPM_CLKIN0CLKOUT, 21 PTB13/CLKOUT32K/TPM1_CH1/RTC_CLKOUT, 22 PTA0/IRQ_0/LLWU_P7/TPM1_CH0/SWD_CLK, 23 PTA1/IRQ_1/LPTMR0_ALT1/TPM_CLKIN0/~{RESET}, 24 PTA2/CMP0_OUT/SWD_DIO


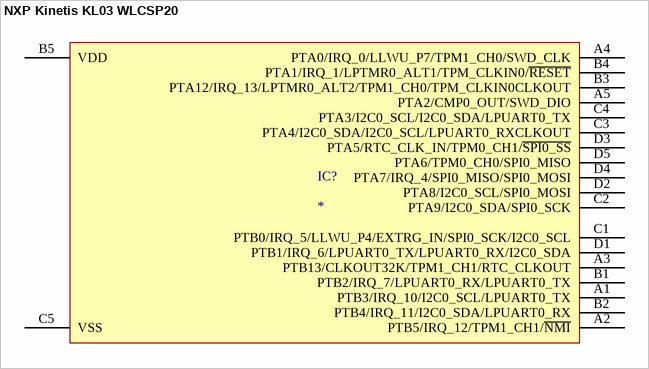
[diagram p310: symbol NXP Kinetis KL03 WLCSP20]

## NXP Kinetis KL03 WLCSP20
designator IC?
pins: A1 PTB3/IRQ_10/I2C0_SCL/LPUART0_TX, A2 PTB5/IRQ_12/TPM1_CH1/~{NMI}, A3 PTB13/CLKOUT32K/TPM1_CH1/RTC_CLKOUT, A4 PTA0/IRQ_0/LLWU_P7/TPM1_CH0/SWD_CLK, A5 PTA2/CMP0_OUT/SWD_DIO, B1 PTB2/IRQ_7/LPUART0_RX/LPUART0_TX, B2 PTB4/IRQ_11/I2C0_SDA/LPUART0_RX, B3 PTA12/IRQ_13/LPTMR0_ALT2/TPM1_CH0/TPM_CLKIN0CLKOUT, B4 PTA1/IRQ_1/LPTMR0_ALT1/TPM_CLKIN0/~{RESET}, B5 VDD, C1 PTB0/IRQ_5/LLWU_P4/EXTRG_IN/SPI0_SCK/I2C0_SCL, C2 PTA9/I2C0_SDA/SPI0_SCK, C3 PTA4/I2C0_SDA/I2C0_SCL/LPUART0_RXCLKOUT, C4 PTA3/I2C0_SCL/I2C0_SDA/LPUART0_TX, C5 VSS, D1 PTB1/IRQ_6/LPUART0_TX/LPUART0_RX/I2C0_SDA, D2 PTA8/I2C0_SCL/SPI0_MOSI, D3 PTA5/RTC_CLK_IN/TPM0_CH1/~{SPI0_SS}, D4 PTA7/IRQ_4/SPI0_MISO/SPI0_MOSI, D5 PTA6/TPM0_CH0/SPI0_MISO


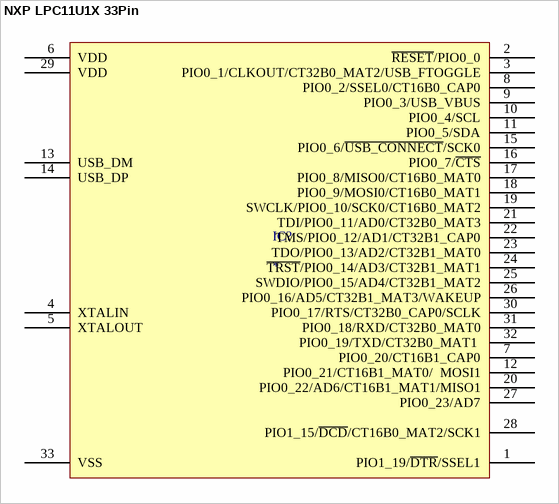
[diagram p311: symbol NXP LPC11U1X 33Pin]

## NXP LPC11U1X 33Pin
designator IC?
pins: 1 PIO1_19/~{DTR}/SSEL1, 2 ~{RESET}/PIO0_0, 3 PIO0_1/CLKOUT/CT32B0_MAT2/USB_FTOGGLE, 4 XTALIN, 5 XTALOUT, 6 VDD, 7 PIO0_20/CT16B1_CAP0, 8 PIO0_2/SSEL0/CT16B0_CAP0, 9 PIO0_3/USB_VBUS, 10 PIO0_4/SCL, 11 PIO0_5/SDA, 12 PIO0_21/CT16B1_MAT0/  MOSI1, 13 USB_DM, 14 USB_DP, 15 PIO0_6/~{USB_CONNECT}/SCK0, 16 PIO0_7/~{CTS}, 17 PIO0_8/MISO0/CT16B0_MAT0, 18 PIO0_9/MOSI0/CT16B0_MAT1, 19 SWCLK/PIO0_10/SCK0/CT16B0_MAT2, 20 PIO0_22/AD6/CT16B1_MAT1/MISO1, 21 TDI/PIO0_11/AD0/CT32B0_MAT3, 22 TMS/PIO0_12/AD1/CT32B1_CAP0, 23 TDO/PIO0_13/AD2/CT32B1_MAT0, 24 ~{TRST}/PIO0_14/AD3/CT32B1_MAT1, 25 SWDIO/PIO0_15/AD4/CT32B1_MAT2, 26 PIO0_16/AD5/CT32B1_MAT3/WAKEUP, 27 PIO0_23/AD7, 28 PIO1_15/~{DCD}/CT16B0_MAT2/SCK1, 29 VDD, 30 PIO0_17/RTS/CT32B0_CAP0/SCLK, 31 PIO0_18/RXD/CT32B0_MAT0, 32 PIO0_19/TXD/CT32B0_MAT1 , 33 VSS


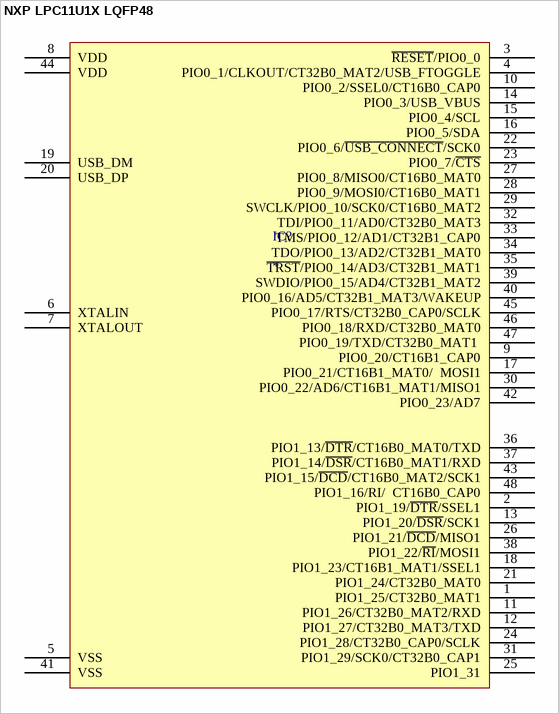
[diagram p312: symbol NXP LPC11U1X LQFP48]

## NXP LPC11U1X LQFP48
designator IC?
pins: 1 PIO1_25/CT32B0_MAT1, 2 PIO1_19/~{DTR}/SSEL1, 3 ~{RESET}/PIO0_0, 4 PIO0_1/CLKOUT/CT32B0_MAT2/USB_FTOGGLE, 5 VSS, 6 XTALIN, 7 XTALOUT, 8 VDD, 9 PIO0_20/CT16B1_CAP0, 10 PIO0_2/SSEL0/CT16B0_CAP0, 11 PIO1_26/CT32B0_MAT2/RXD, 12 PIO1_27/CT32B0_MAT3/TXD, 13 PIO1_20/~{DSR}/SCK1, 14 PIO0_3/USB_VBUS, 15 PIO0_4/SCL, 16 PIO0_5/SDA, 17 PIO0_21/CT16B1_MAT0/  MOSI1, 18 PIO1_23/CT16B1_MAT1/SSEL1, 19 USB_DM, 20 USB_DP, 21 PIO1_24/CT32B0_MAT0, 22 PIO0_6/~{USB_CONNECT}/SCK0, 23 PIO0_7/~{CTS}, 24 PIO1_28/CT32B0_CAP0/SCLK, 25 PIO1_31, 26 PIO1_21/~{DCD}/MISO1, 27 PIO0_8/MISO0/CT16B0_MAT0, 28 PIO0_9/MOSI0/CT16B0_MAT1, 29 SWCLK/PIO0_10/SCK0/CT16B0_MAT2, 30 PIO0_22/AD6/CT16B1_MAT1/MISO1, 31 PIO1_29/SCK0/CT32B0_CAP1, 32 TDI/PIO0_11/AD0/CT32B0_MAT3, 33 TMS/PIO0_12/AD1/CT32B1_CAP0, 34 TDO/PIO0_13/AD2/CT32B1_MAT0, 35 ~{TRST}/PIO0_14/AD3/CT32B1_MAT1, 36 PIO1_13/~{DTR}/CT16B0_MAT0/TXD, 37 PIO1_14/~{DSR}/CT16B0_MAT1/RXD, 38 PIO1_22/~{RI}/MOSI1, 39 SWDIO/PIO0_15/AD4/CT32B1_MAT2, 40 PIO0_16/AD5/CT32B1_MAT3/WAKEUP, 41 VSS, 42 PIO0_23/AD7, 43 PIO1_15/~{DCD}/CT16B0_MAT2/SCK1, 44 VDD, 45 PIO0_17/RTS/CT32B0_CAP0/SCLK, 46 PIO0_18/RXD/CT32B0_MAT0, 47 PIO0_19/TXD/CT32B0_MAT1 , 48 PIO1_16/RI/  CT16B0_CAP0


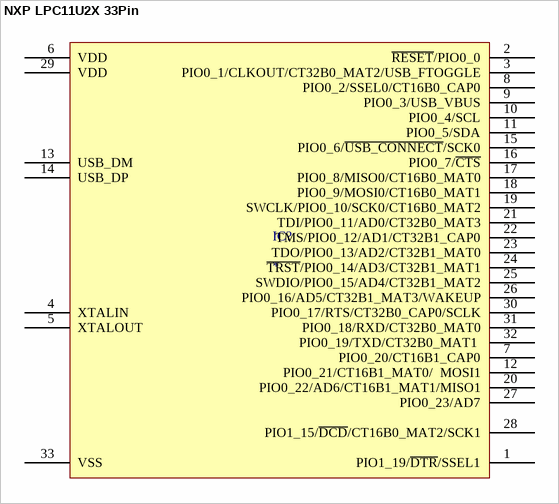
[diagram p313: symbol NXP LPC11U2X 33Pin]

## NXP LPC11U2X 33Pin
designator IC?
pins: 1 PIO1_19/~{DTR}/SSEL1, 2 ~{RESET}/PIO0_0, 3 PIO0_1/CLKOUT/CT32B0_MAT2/USB_FTOGGLE, 4 XTALIN, 5 XTALOUT, 6 VDD, 7 PIO0_20/CT16B1_CAP0, 8 PIO0_2/SSEL0/CT16B0_CAP0, 9 PIO0_3/USB_VBUS, 10 PIO0_4/SCL, 11 PIO0_5/SDA, 12 PIO0_21/CT16B1_MAT0/  MOSI1, 13 USB_DM, 14 USB_DP, 15 PIO0_6/~{USB_CONNECT}/SCK0, 16 PIO0_7/~{CTS}, 17 PIO0_8/MISO0/CT16B0_MAT0, 18 PIO0_9/MOSI0/CT16B0_MAT1, 19 SWCLK/PIO0_10/SCK0/CT16B0_MAT2, 20 PIO0_22/AD6/CT16B1_MAT1/MISO1, 21 TDI/PIO0_11/AD0/CT32B0_MAT3, 22 TMS/PIO0_12/AD1/CT32B1_CAP0, 23 TDO/PIO0_13/AD2/CT32B1_MAT0, 24 ~{TRST}/PIO0_14/AD3/CT32B1_MAT1, 25 SWDIO/PIO0_15/AD4/CT32B1_MAT2, 26 PIO0_16/AD5/CT32B1_MAT3/WAKEUP, 27 PIO0_23/AD7, 28 PIO1_15/~{DCD}/CT16B0_MAT2/SCK1, 29 VDD, 30 PIO0_17/RTS/CT32B0_CAP0/SCLK, 31 PIO0_18/RXD/CT32B0_MAT0, 32 PIO0_19/TXD/CT32B0_MAT1 , 33 VSS


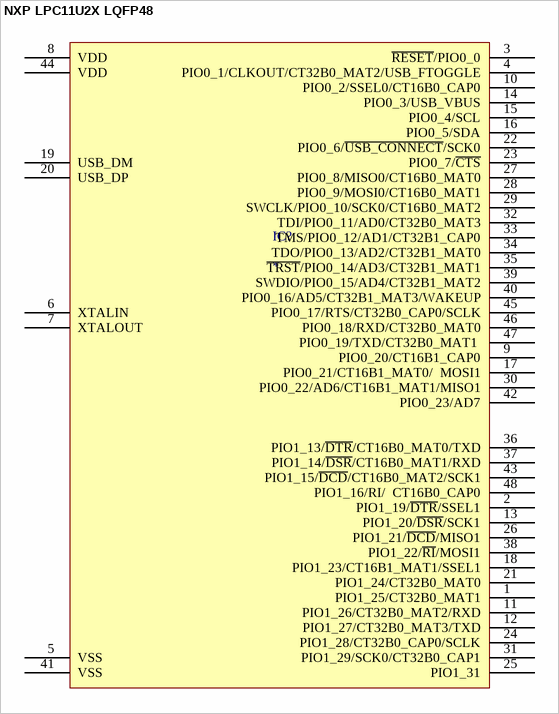
[diagram p314: symbol NXP LPC11U2X LQFP48]

## NXP LPC11U2X LQFP48
designator IC?
pins: 1 PIO1_25/CT32B0_MAT1, 2 PIO1_19/~{DTR}/SSEL1, 3 ~{RESET}/PIO0_0, 4 PIO0_1/CLKOUT/CT32B0_MAT2/USB_FTOGGLE, 5 VSS, 6 XTALIN, 7 XTALOUT, 8 VDD, 9 PIO0_20/CT16B1_CAP0, 10 PIO0_2/SSEL0/CT16B0_CAP0, 11 PIO1_26/CT32B0_MAT2/RXD, 12 PIO1_27/CT32B0_MAT3/TXD, 13 PIO1_20/~{DSR}/SCK1, 14 PIO0_3/USB_VBUS, 15 PIO0_4/SCL, 16 PIO0_5/SDA, 17 PIO0_21/CT16B1_MAT0/  MOSI1, 18 PIO1_23/CT16B1_MAT1/SSEL1, 19 USB_DM, 20 USB_DP, 21 PIO1_24/CT32B0_MAT0, 22 PIO0_6/~{USB_CONNECT}/SCK0, 23 PIO0_7/~{CTS}, 24 PIO1_28/CT32B0_CAP0/SCLK, 25 PIO1_31, 26 PIO1_21/~{DCD}/MISO1, 27 PIO0_8/MISO0/CT16B0_MAT0, 28 PIO0_9/MOSI0/CT16B0_MAT1, 29 SWCLK/PIO0_10/SCK0/CT16B0_MAT2, 30 PIO0_22/AD6/CT16B1_MAT1/MISO1, 31 PIO1_29/SCK0/CT32B0_CAP1, 32 TDI/PIO0_11/AD0/CT32B0_MAT3, 33 TMS/PIO0_12/AD1/CT32B1_CAP0, 34 TDO/PIO0_13/AD2/CT32B1_MAT0, 35 ~{TRST}/PIO0_14/AD3/CT32B1_MAT1, 36 PIO1_13/~{DTR}/CT16B0_MAT0/TXD, 37 PIO1_14/~{DSR}/CT16B0_MAT1/RXD, 38 PIO1_22/~{RI}/MOSI1, 39 SWDIO/PIO0_15/AD4/CT32B1_MAT2, 40 PIO0_16/AD5/CT32B1_MAT3/WAKEUP, 41 VSS, 42 PIO0_23/AD7, 43 PIO1_15/~{DCD}/CT16B0_MAT2/SCK1, 44 VDD, 45 PIO0_17/RTS/CT32B0_CAP0/SCLK, 46 PIO0_18/RXD/CT32B0_MAT0, 47 PIO0_19/TXD/CT32B0_MAT1 , 48 PIO1_16/RI/  CT16B0_CAP0


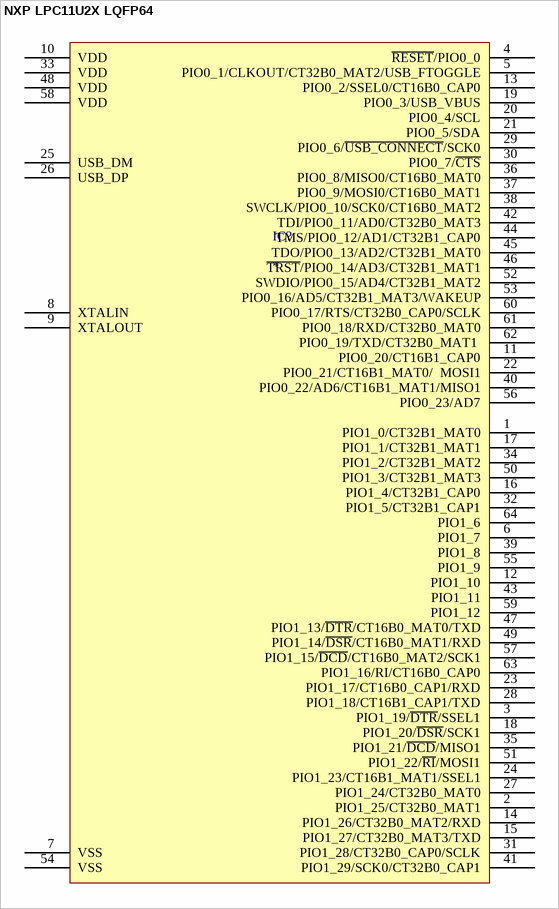
[diagram p315: symbol NXP LPC11U2X LQFP64]

## NXP LPC11U2X LQFP64
designator IC?
pins: 1 PIO1_0/CT32B1_MAT0, 2 PIO1_25/CT32B0_MAT1, 3 PIO1_19/~{DTR}/SSEL1, 4 ~{RESET}/PIO0_0, 5 PIO0_1/CLKOUT/CT32B0_MAT2/USB_FTOGGLE, 6 PIO1_7, 7 VSS, 8 XTALIN, 9 XTALOUT, 10 VDD, 11 PIO0_20/CT16B1_CAP0, 12 PIO1_10, 13 PIO0_2/SSEL0/CT16B0_CAP0, 14 PIO1_26/CT32B0_MAT2/RXD, 15 PIO1_27/CT32B0_MAT3/TXD, 16 PIO1_4/CT32B1_CAP0, 17 PIO1_1/CT32B1_MAT1, 18 PIO1_20/~{DSR}/SCK1, 19 PIO0_3/USB_VBUS, 20 PIO0_4/SCL, 21 PIO0_5/SDA, 22 PIO0_21/CT16B1_MAT0/  MOSI1, 23 PIO1_17/CT16B0_CAP1/RXD, 24 PIO1_23/CT16B1_MAT1/SSEL1, 25 USB_DM, 26 USB_DP, 27 PIO1_24/CT32B0_MAT0, 28 PIO1_18/CT16B1_CAP1/TXD, 29 PIO0_6/~{USB_CONNECT}/SCK0, 30 PIO0_7/~{CTS}, 31 PIO1_28/CT32B0_CAP0/SCLK, 32 PIO1_5/CT32B1_CAP1, 33 VDD, 34 PIO1_2/CT32B1_MAT2, 35 PIO1_21/~{DCD}/MISO1, 36 PIO0_8/MISO0/CT16B0_MAT0, 37 PIO0_9/MOSI0/CT16B0_MAT1, 38 SWCLK/PIO0_10/SCK0/CT16B0_MAT2, 39 PIO1_8, 40 PIO0_22/AD6/CT16B1_MAT1/MISO1, 41 PIO1_29/SCK0/CT32B0_CAP1, 42 TDI/PIO0_11/AD0/CT32B0_MAT3, 43 PIO1_11, 44 TMS/PIO0_12/AD1/CT32B1_CAP0, 45 TDO/PIO0_13/AD2/CT32B1_MAT0, 46 ~{TRST}/PIO0_14/AD3/CT32B1_MAT1, 47 PIO1_13/~{DTR}/CT16B0_MAT0/TXD, 48 VDD, 49 PIO1_14/~{DSR}/CT16B0_MAT1/RXD, 50 PIO1_3/CT32B1_MAT3, 51 PIO1_22/~{RI}/MOSI1, 52 SWDIO/PIO0_15/AD4/CT32B1_MAT2, 53 PIO0_16/AD5/CT32B1_MAT3/WAKEUP, 54 VSS, 55 PIO1_9, 56 PIO0_23/AD7, 57 PIO1_15/~{DCD}/CT16B0_MAT2/SCK1, 58 VDD, 59 PIO1_12, 60 PIO0_17/RTS/CT32B0_CAP0/SCLK, 61 PIO0_18/RXD/CT32B0_MAT0, 62 PIO0_19/TXD/CT32B0_MAT1 , 63 PIO1_16/RI/CT16B0_CAP0, 64 PIO1_6


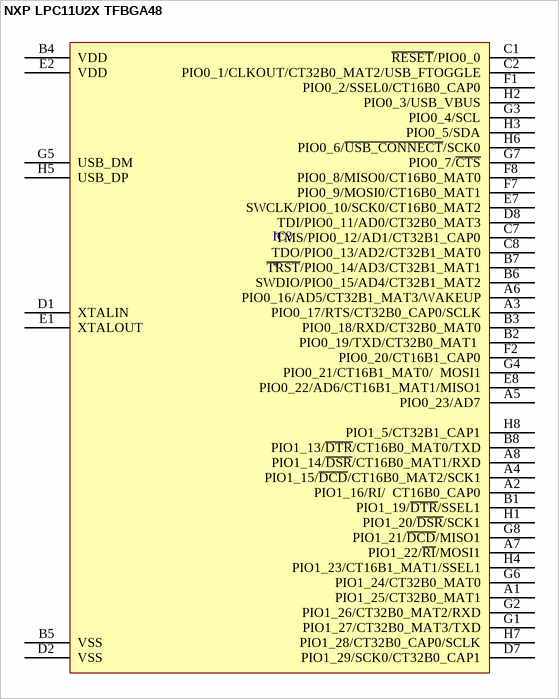
[diagram p316: symbol NXP LPC11U2X TFBGA48]

## NXP LPC11U2X TFBGA48
designator IC?
pins: A1 PIO1_25/CT32B0_MAT1, A2 PIO1_16/RI/  CT16B0_CAP0, A3 PIO0_17/RTS/CT32B0_CAP0/SCLK, A4 PIO1_15/~{DCD}/CT16B0_MAT2/SCK1, A5 PIO0_23/AD7, A6 PIO0_16/AD5/CT32B1_MAT3/WAKEUP, A7 PIO1_22/~{RI}/MOSI1, A8 PIO1_14/~{DSR}/CT16B0_MAT1/RXD, B1 PIO1_19/~{DTR}/SSEL1, B2 PIO0_19/TXD/CT32B0_MAT1 , B3 PIO0_18/RXD/CT32B0_MAT0, B4 VDD, B5 VSS, B6 SWDIO/PIO0_15/AD4/CT32B1_MAT2, B7 ~{TRST}/PIO0_14/AD3/CT32B1_MAT1, B8 PIO1_13/~{DTR}/CT16B0_MAT0/TXD, C1 ~{RESET}/PIO0_0, C2 PIO0_1/CLKOUT/CT32B0_MAT2/USB_FTOGGLE, C7 TMS/PIO0_12/AD1/CT32B1_CAP0, C8 TDO/PIO0_13/AD2/CT32B1_MAT0, D1 XTALIN, D2 VSS, D7 PIO1_29/SCK0/CT32B0_CAP1, D8 TDI/PIO0_11/AD0/CT32B0_MAT3, E1 XTALOUT, E2 VDD, E7 SWCLK/PIO0_10/SCK0/CT16B0_MAT2, E8 PIO0_22/AD6/CT16B1_MAT1/MISO1, F1 PIO0_2/SSEL0/CT16B0_CAP0, F2 PIO0_20/CT16B1_CAP0, F7 PIO0_9/MOSI0/CT16B0_MAT1, F8 PIO0_8/MISO0/CT16B0_MAT0, G1 PIO1_27/CT32B0_MAT3/TXD, G2 PIO1_26/CT32B0_MAT2/RXD, G3 PIO0_4/SCL, G4 PIO0_21/CT16B1_MAT0/  MOSI1, G5 USB_DM, G6 PIO1_24/CT32B0_MAT0, G7 PIO0_7/~{CTS}, G8 PIO1_21/~{DCD}/MISO1, H1 PIO1_20/~{DSR}/SCK1, H2 PIO0_3/USB_VBUS, H3 PIO0_5/SDA, H4 PIO1_23/CT16B1_MAT1/SSEL1, H5 USB_DP, H6 PIO0_6/~{USB_CONNECT}/SCK0, H7 PIO1_28/CT32B0_CAP0/SCLK, H8 PIO1_5/CT32B1_CAP1


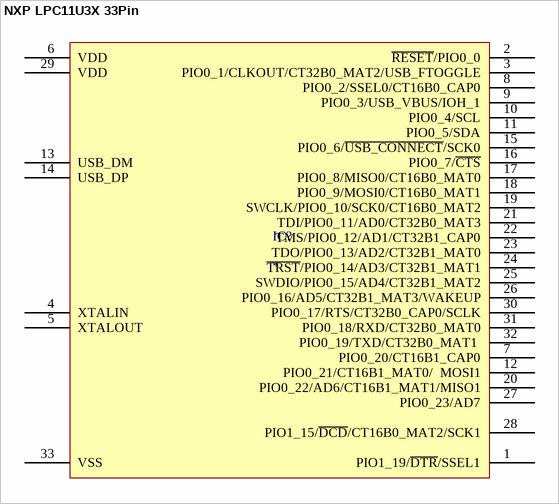
[diagram p317: symbol NXP LPC11U3X 33Pin]

## NXP LPC11U3X 33Pin
designator IC?
pins: 1 PIO1_19/~{DTR}/SSEL1, 2 ~{RESET}/PIO0_0, 3 PIO0_1/CLKOUT/CT32B0_MAT2/USB_FTOGGLE, 4 XTALIN, 5 XTALOUT, 6 VDD, 7 PIO0_20/CT16B1_CAP0, 8 PIO0_2/SSEL0/CT16B0_CAP0, 9 PIO0_3/USB_VBUS/IOH_1, 10 PIO0_4/SCL, 11 PIO0_5/SDA, 12 PIO0_21/CT16B1_MAT0/  MOSI1, 13 USB_DM, 14 USB_DP, 15 PIO0_6/~{USB_CONNECT}/SCK0, 16 PIO0_7/~{CTS}, 17 PIO0_8/MISO0/CT16B0_MAT0, 18 PIO0_9/MOSI0/CT16B0_MAT1, 19 SWCLK/PIO0_10/SCK0/CT16B0_MAT2, 20 PIO0_22/AD6/CT16B1_MAT1/MISO1, 21 TDI/PIO0_11/AD0/CT32B0_MAT3, 22 TMS/PIO0_12/AD1/CT32B1_CAP0, 23 TDO/PIO0_13/AD2/CT32B1_MAT0, 24 ~{TRST}/PIO0_14/AD3/CT32B1_MAT1, 25 SWDIO/PIO0_15/AD4/CT32B1_MAT2, 26 PIO0_16/AD5/CT32B1_MAT3/WAKEUP, 27 PIO0_23/AD7, 28 PIO1_15/~{DCD}/CT16B0_MAT2/SCK1, 29 VDD, 30 PIO0_17/RTS/CT32B0_CAP0/SCLK, 31 PIO0_18/RXD/CT32B0_MAT0, 32 PIO0_19/TXD/CT32B0_MAT1 , 33 VSS


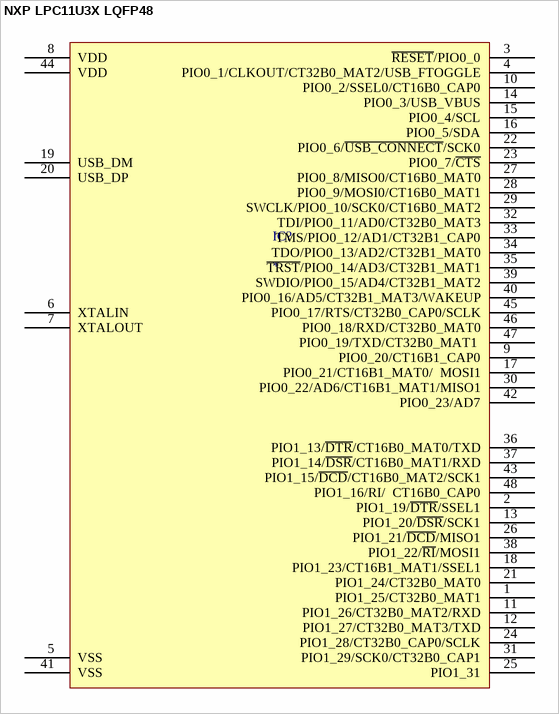
[diagram p318: symbol NXP LPC11U3X LQFP48]

## NXP LPC11U3X LQFP48
designator IC?
pins: 1 PIO1_25/CT32B0_MAT1, 2 PIO1_19/~{DTR}/SSEL1, 3 ~{RESET}/PIO0_0, 4 PIO0_1/CLKOUT/CT32B0_MAT2/USB_FTOGGLE, 5 VSS, 6 XTALIN, 7 XTALOUT, 8 VDD, 9 PIO0_20/CT16B1_CAP0, 10 PIO0_2/SSEL0/CT16B0_CAP0, 11 PIO1_26/CT32B0_MAT2/RXD, 12 PIO1_27/CT32B0_MAT3/TXD, 13 PIO1_20/~{DSR}/SCK1, 14 PIO0_3/USB_VBUS, 15 PIO0_4/SCL, 16 PIO0_5/SDA, 17 PIO0_21/CT16B1_MAT0/  MOSI1, 18 PIO1_23/CT16B1_MAT1/SSEL1, 19 USB_DM, 20 USB_DP, 21 PIO1_24/CT32B0_MAT0, 22 PIO0_6/~{USB_CONNECT}/SCK0, 23 PIO0_7/~{CTS}, 24 PIO1_28/CT32B0_CAP0/SCLK, 25 PIO1_31, 26 PIO1_21/~{DCD}/MISO1, 27 PIO0_8/MISO0/CT16B0_MAT0, 28 PIO0_9/MOSI0/CT16B0_MAT1, 29 SWCLK/PIO0_10/SCK0/CT16B0_MAT2, 30 PIO0_22/AD6/CT16B1_MAT1/MISO1, 31 PIO1_29/SCK0/CT32B0_CAP1, 32 TDI/PIO0_11/AD0/CT32B0_MAT3, 33 TMS/PIO0_12/AD1/CT32B1_CAP0, 34 TDO/PIO0_13/AD2/CT32B1_MAT0, 35 ~{TRST}/PIO0_14/AD3/CT32B1_MAT1, 36 PIO1_13/~{DTR}/CT16B0_MAT0/TXD, 37 PIO1_14/~{DSR}/CT16B0_MAT1/RXD, 38 PIO1_22/~{RI}/MOSI1, 39 SWDIO/PIO0_15/AD4/CT32B1_MAT2, 40 PIO0_16/AD5/CT32B1_MAT3/WAKEUP, 41 VSS, 42 PIO0_23/AD7, 43 PIO1_15/~{DCD}/CT16B0_MAT2/SCK1, 44 VDD, 45 PIO0_17/RTS/CT32B0_CAP0/SCLK, 46 PIO0_18/RXD/CT32B0_MAT0, 47 PIO0_19/TXD/CT32B0_MAT1 , 48 PIO1_16/RI/  CT16B0_CAP0


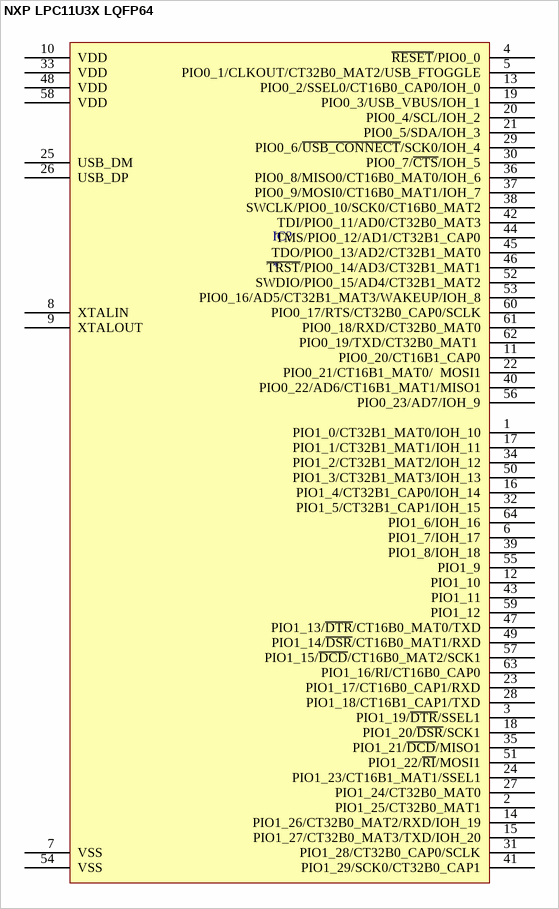
[diagram p319: symbol NXP LPC11U3X LQFP64]

## NXP LPC11U3X LQFP64
designator IC?
pins: 1 PIO1_0/CT32B1_MAT0/IOH_10, 2 PIO1_25/CT32B0_MAT1, 3 PIO1_19/~{DTR}/SSEL1, 4 ~{RESET}/PIO0_0, 5 PIO0_1/CLKOUT/CT32B0_MAT2/USB_FTOGGLE, 6 PIO1_7/IOH_17, 7 VSS, 8 XTALIN, 9 XTALOUT, 10 VDD, 11 PIO0_20/CT16B1_CAP0, 12 PIO1_10, 13 PIO0_2/SSEL0/CT16B0_CAP0/IOH_0, 14 PIO1_26/CT32B0_MAT2/RXD/IOH_19, 15 PIO1_27/CT32B0_MAT3/TXD/IOH_20, 16 PIO1_4/CT32B1_CAP0/IOH_14, 17 PIO1_1/CT32B1_MAT1/IOH_11, 18 PIO1_20/~{DSR}/SCK1, 19 PIO0_3/USB_VBUS/IOH_1, 20 PIO0_4/SCL/IOH_2, 21 PIO0_5/SDA/IOH_3, 22 PIO0_21/CT16B1_MAT0/  MOSI1, 23 PIO1_17/CT16B0_CAP1/RXD, 24 PIO1_23/CT16B1_MAT1/SSEL1, 25 USB_DM, 26 USB_DP, 27 PIO1_24/CT32B0_MAT0, 28 PIO1_18/CT16B1_CAP1/TXD, 29 PIO0_6/~{USB_CONNECT}/SCK0/IOH_4, 30 PIO0_7/~{CTS}/IOH_5, 31 PIO1_28/CT32B0_CAP0/SCLK, 32 PIO1_5/CT32B1_CAP1/IOH_15, 33 VDD, 34 PIO1_2/CT32B1_MAT2/IOH_12, 35 PIO1_21/~{DCD}/MISO1, 36 PIO0_8/MISO0/CT16B0_MAT0/IOH_6, 37 PIO0_9/MOSI0/CT16B0_MAT1/IOH_7, 38 SWCLK/PIO0_10/SCK0/CT16B0_MAT2, 39 PIO1_8/IOH_18, 40 PIO0_22/AD6/CT16B1_MAT1/MISO1, 41 PIO1_29/SCK0/CT32B0_CAP1, 42 TDI/PIO0_11/AD0/CT32B0_MAT3, 43 PIO1_11, 44 TMS/PIO0_12/AD1/CT32B1_CAP0, 45 TDO/PIO0_13/AD2/CT32B1_MAT0, 46 ~{TRST}/PIO0_14/AD3/CT32B1_MAT1, 47 PIO1_13/~{DTR}/CT16B0_MAT0/TXD, 48 VDD, 49 PIO1_14/~{DSR}/CT16B0_MAT1/RXD, 50 PIO1_3/CT32B1_MAT3/IOH_13, 51 PIO1_22/~{RI}/MOSI1, 52 SWDIO/PIO0_15/AD4/CT32B1_MAT2, 53 PIO0_16/AD5/CT32B1_MAT3/WAKEUP/IOH_8, 54 VSS, 55 PIO1_9, 56 PIO0_23/AD7/IOH_9, 57 PIO1_15/~{DCD}/CT16B0_MAT2/SCK1, 58 VDD, 59 PIO1_12, 60 PIO0_17/RTS/CT32B0_CAP0/SCLK, 61 PIO0_18/RXD/CT32B0_MAT0, 62 PIO0_19/TXD/CT32B0_MAT1 , 63 PIO1_16/RI/CT16B0_CAP0, 64 PIO1_6/IOH_16


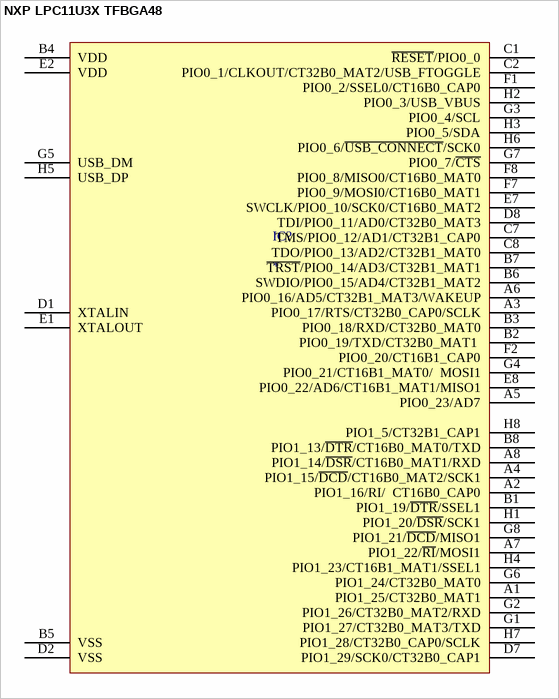
[diagram p320: symbol NXP LPC11U3X TFBGA48]

## NXP LPC11U3X TFBGA48
designator IC?
pins: A1 PIO1_25/CT32B0_MAT1, A2 PIO1_16/RI/  CT16B0_CAP0, A3 PIO0_17/RTS/CT32B0_CAP0/SCLK, A4 PIO1_15/~{DCD}/CT16B0_MAT2/SCK1, A5 PIO0_23/AD7, A6 PIO0_16/AD5/CT32B1_MAT3/WAKEUP, A7 PIO1_22/~{RI}/MOSI1, A8 PIO1_14/~{DSR}/CT16B0_MAT1/RXD, B1 PIO1_19/~{DTR}/SSEL1, B2 PIO0_19/TXD/CT32B0_MAT1 , B3 PIO0_18/RXD/CT32B0_MAT0, B4 VDD, B5 VSS, B6 SWDIO/PIO0_15/AD4/CT32B1_MAT2, B7 ~{TRST}/PIO0_14/AD3/CT32B1_MAT1, B8 PIO1_13/~{DTR}/CT16B0_MAT0/TXD, C1 ~{RESET}/PIO0_0, C2 PIO0_1/CLKOUT/CT32B0_MAT2/USB_FTOGGLE, C7 TMS/PIO0_12/AD1/CT32B1_CAP0, C8 TDO/PIO0_13/AD2/CT32B1_MAT0, D1 XTALIN, D2 VSS, D7 PIO1_29/SCK0/CT32B0_CAP1, D8 TDI/PIO0_11/AD0/CT32B0_MAT3, E1 XTALOUT, E2 VDD, E7 SWCLK/PIO0_10/SCK0/CT16B0_MAT2, E8 PIO0_22/AD6/CT16B1_MAT1/MISO1, F1 PIO0_2/SSEL0/CT16B0_CAP0, F2 PIO0_20/CT16B1_CAP0, F7 PIO0_9/MOSI0/CT16B0_MAT1, F8 PIO0_8/MISO0/CT16B0_MAT0, G1 PIO1_27/CT32B0_MAT3/TXD, G2 PIO1_26/CT32B0_MAT2/RXD, G3 PIO0_4/SCL, G4 PIO0_21/CT16B1_MAT0/  MOSI1, G5 USB_DM, G6 PIO1_24/CT32B0_MAT0, G7 PIO0_7/~{CTS}, G8 PIO1_21/~{DCD}/MISO1, H1 PIO1_20/~{DSR}/SCK1, H2 PIO0_3/USB_VBUS, H3 PIO0_5/SDA, H4 PIO1_23/CT16B1_MAT1/SSEL1, H5 USB_DP, H6 PIO0_6/~{USB_CONNECT}/SCK0, H7 PIO1_28/CT32B0_CAP0/SCLK, H8 PIO1_5/CT32B1_CAP1


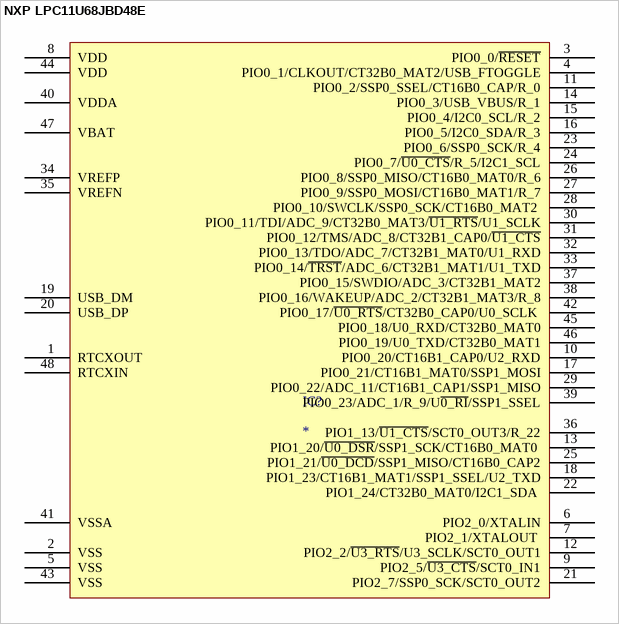
[diagram p321: symbol NXP LPC11U68JBD48E]

## NXP LPC11U68JBD48E
designator IC?
pins: 1 RTCXOUT, 2 VSS, 3 PIO0_0/~{RESET}, 4 PIO0_1/CLKOUT/CT32B0_MAT2/USB_FTOGGLE, 5 VSS, 6 PIO2_0/XTALIN, 7 PIO2_1/XTALOUT , 8 VDD, 9 PIO2_5/~{U3_CTS}/SCT0_IN1, 10 PIO0_20/CT16B1_CAP0/U2_RXD, 11 PIO0_2/SSP0_SSEL/CT16B0_CAP/R_0, 12 PIO2_2/~{U3_RTS}/U3_SCLK/SCT0_OUT1, 13 PIO1_20/~{U0_DSR}/SSP1_SCK/CT16B0_MAT0 , 14 PIO0_3/USB_VBUS/R_1, 15 PIO0_4/I2C0_SCL/R_2, 16 PIO0_5/I2C0_SDA/R_3, 17 PIO0_21/CT16B1_MAT0/SSP1_MOSI, 18 PIO1_23/CT16B1_MAT1/SSP1_SSEL/U2_TXD, 19 USB_DM, 20 USB_DP, 21 PIO2_7/SSP0_SCK/SCT0_OUT2, 22 PIO1_24/CT32B0_MAT0/I2C1_SDA , 23 PIO0_6/SSP0_SCK/R_4, 24 PIO0_7/~{U0_CTS}/R_5/I2C1_SCL, 25 PIO1_21/~{U0_DCD}/SSP1_MISO/CT16B0_CAP2, 26 PIO0_8/SSP0_MISO/CT16B0_MAT0/R_6, 27 PIO0_9/SSP0_MOSI/CT16B0_MAT1/R_7, 28 PIO0_10/SWCLK/SSP0_SCK/CT16B0_MAT2 , 29 PIO0_22/ADC_11/CT16B1_CAP1/SSP1_MISO, 30 PIO0_11/TDI/ADC_9/CT32B0_MAT3/~{U1_RTS}/U1_SCLK, 31 PIO0_12/TMS/ADC_8/CT32B1_CAP0/~{U1_CTS}, 32 PIO0_13/TDO/ADC_7/CT32B1_MAT0/U1_RXD, 33 PIO0_14/~{TRST}/ADC_6/CT32B1_MAT1/U1_TXD, 34 VREFP, 35 VREFN, 36 PIO1_13/~{U1_CTS}/SCT0_OUT3/R_22, 37 PIO0_15/SWDIO/ADC_3/CT32B1_MAT2, 38 PIO0_16/WAKEUP/ADC_2/CT32B1_MAT3/R_8, 39 PIO0_23/ADC_1/R_9/U~{0_RI}/SSP1_SSEL, 40 VDDA, 41 VSSA, 42 PIO0_17/~{U0_RTS}/CT32B0_CAP0/U0_SCLK , 43 VSS, 44 VDD, 45 PIO0_18/U0_RXD/CT32B0_MAT0, 46 PIO0_19/U0_TXD/CT32B0_MAT1, 47 VBAT, 48 RTCXIN
